# Altium schematic symbol library MH_DA_THU_VIEN_16122016.SchLib: 853 symbols (part 4 of 5)
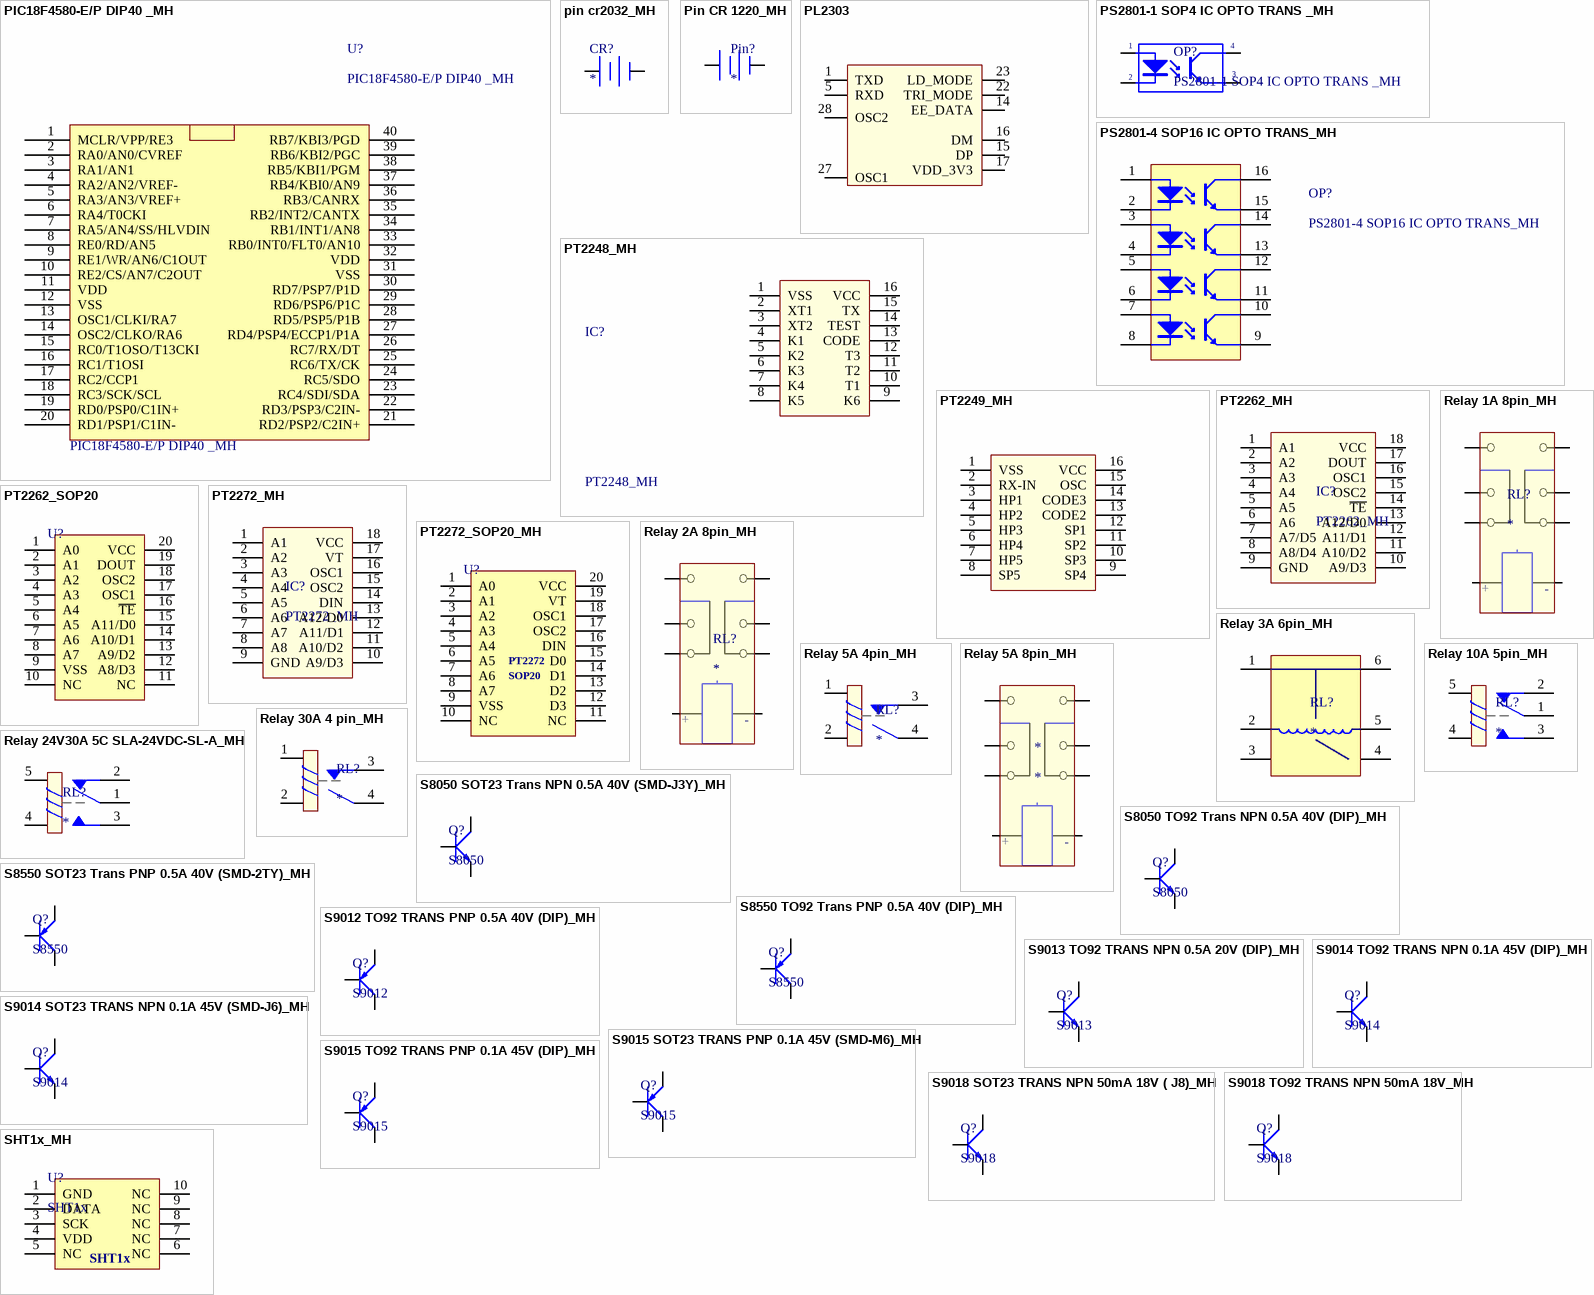
[diagram p43: symbols PIC18F4580-E/P DIP40 _MH to SHT1x_MH]

## S9018 SOT23 TRANS NPN 50mA 18V ( J8)_MH
designator Q?, comment S9018
footprint SOT23 (SOT-23; 3 Leads; Body 3.1 x 2.5 mm, inc. leads (LxW max), Alternate Lead Configuration)
pins: 1 B, 2 E, 3 C

## S9018 TO92 TRANS NPN 50mA 18V_MH
designator Q?, comment S9018
footprint TO92 (TO, Flat Index; 3 In-Line, Axial Leads; Body Dia. 4.8mm)
pins: 1 E, 2 B, 3 C

## SHT1x_MH
designator U?, comment SHT1x
footprint SHT1x (SHT1x PCB)
pins: 1 GND, 2 DATA, 3 SCK, 4 VDD, 5 NC, 6 NC, 7 NC, 8 NC, 9 NC, 10 NC

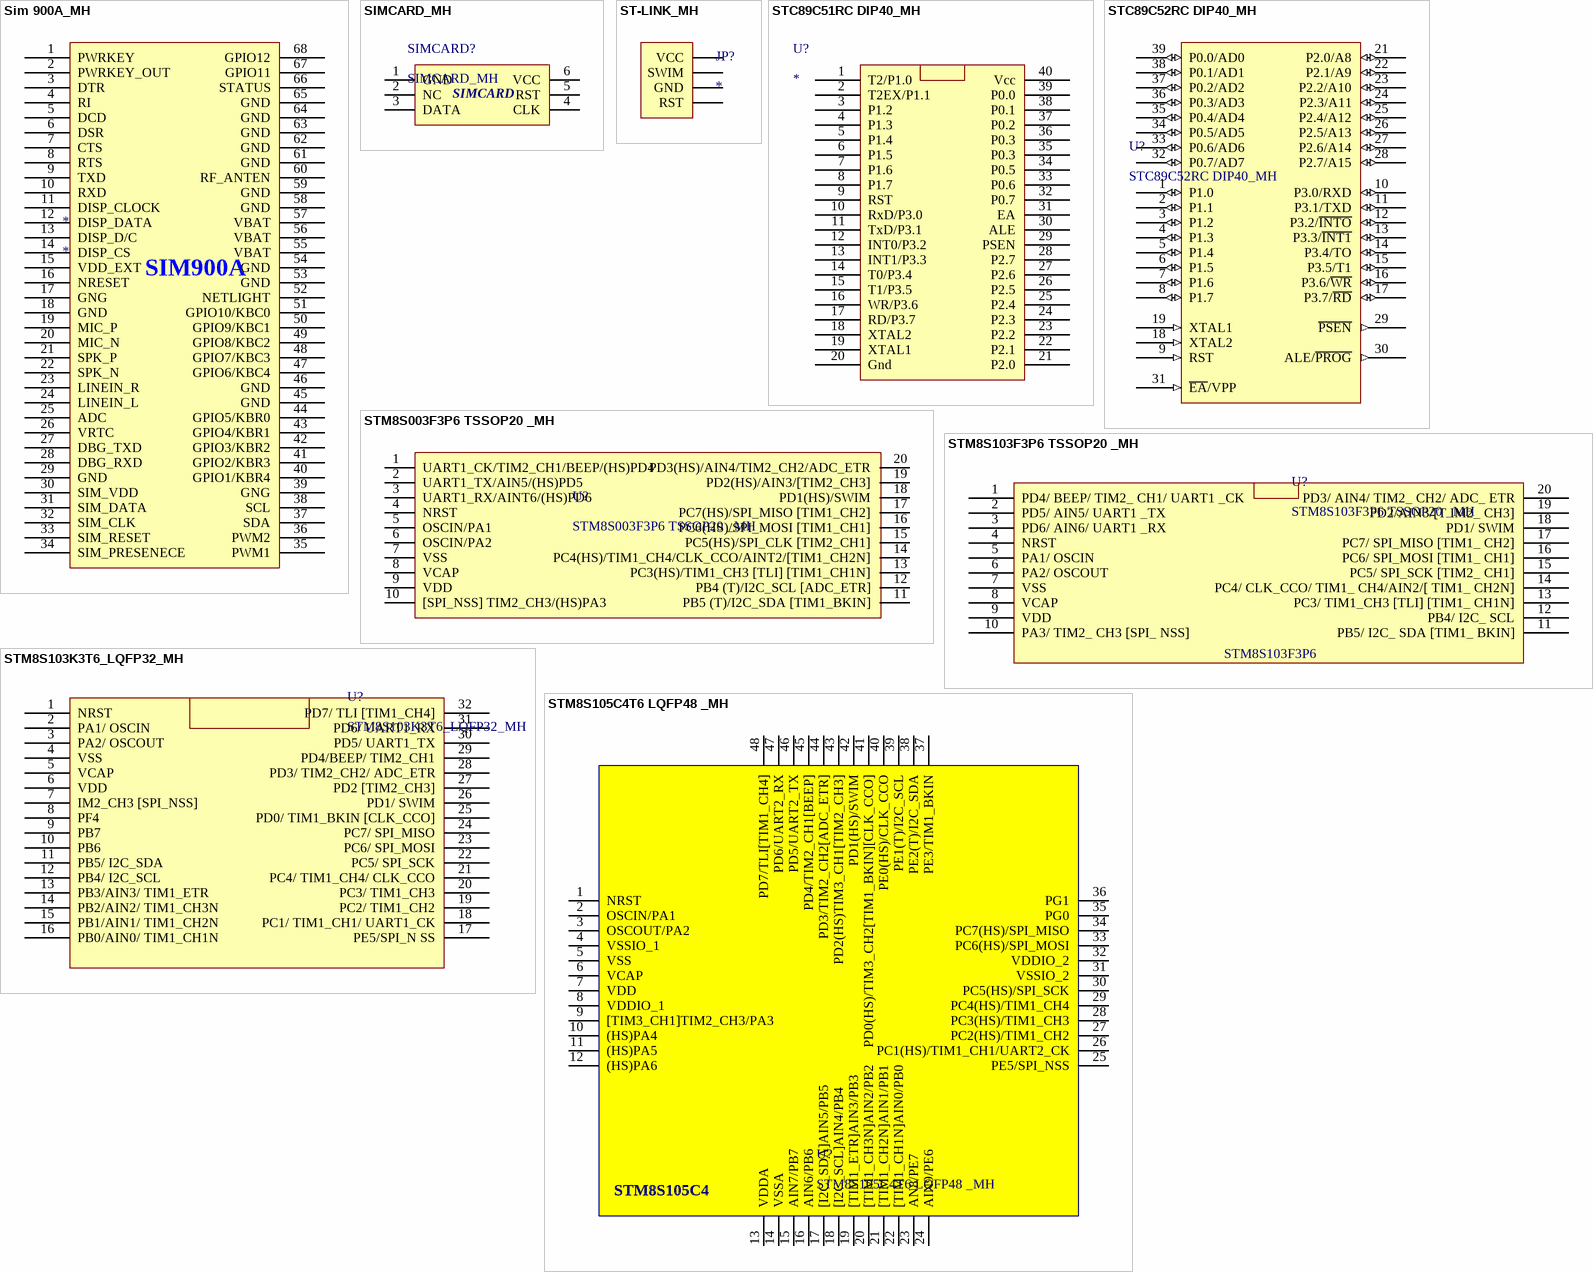
[diagram p25: symbols Sim 900A_MH to STM8S105C4T6 LQFP48 _MH]

## Sim 900A_MH
designator *
footprint SIM900
pins: 1 PWRKEY, 2 PWRKEY_OUT, 3 DTR, 4 RI, 5 DCD, 6 DSR, 7 CTS, 8 RTS, 9 TXD, 10 RXD, 11 DISP_CLOCK, 12 DISP_DATA, 13 DISP_D/C, 14 DISP_CS, 15 VDD_EXT, 16 NRESET, 17 GNG, 18 GND, 19 MIC_P, 20 MIC_N, 21 SPK_P, 22 SPK_N, 23 LINEIN_R, 24 LINEIN_L, 25 ADC, 26 VRTC, 27 DBG_TXD, 28 DBG_RXD, 29 GND, 30 SIM_VDD, 31 SIM_DATA, 32 SIM_CLK, 33 SIM_RESET, 34 SIM_PRESENECE, 35 PWM1, 36 PWM2, 37 SDA, 38 SCL, 39 GNG, 40 GPIO1/KBR4, 41 GPIO2/KBR3, 42 GPIO3/KBR2, 43 GPIO4/KBR1, 44 GPIO5/KBR0, 45 GND, 46 GND, 47 GPIO6/KBC4, 48 GPIO7/KBC3, 49 GPIO8/KBC2, 50 GPIO9/KBC1, 51 GPIO10/KBC0, 52 NETLIGHT, 53 GND, 54 GND, 55 VBAT, 56 VBAT, 57 VBAT, 58 GND, 59 GND, 60 RF_ANTEN, 61 GND, 62 GND, 63 GND, 64 GND, 65 GND, 66 STATUS, 67 GPIO11, 68 GPIO12
text: SIM900A

## SIMCARD_MH
designator SIMCARD?
footprint SIMCARD (SOCKET Khe Cam The Sim)
pins: 1 GND, 2 NC, 3 DATA, 4 CLK, 5 RST, 6 VCC
text: SIMCARD

## ST-LINK_MH
designator JP?
Jump 4P 2.54
footprint Jump 4
pins: 1 VCC, 2 SWIM, 3 GND, 4 RST

## STC89C51RC DIP40_MH
designator U?
STC89C51RC DIP40_MH
footprint DIP 40
pins: 1 T2/P1.0, 2 T2EX/P1.1, 3 P1.2, 4 P1.3, 5 P1.4, 6 P1.5, 7 P1.6, 8 P1.7, 9 RST, 10 RxD/P3.0, 11 TxD/P3.1, 12 INT0/P3.2, 13 INT1/P3.3, 14 T0/P3.4, 15 T1/P3.5, 16 WR/P3.6, 17 RD/P3.7, 18 XTAL2, 19 XTAL1, 20 Gnd, 21 P2.0, 22 P2.1, 23 P2.2, 24 P2.3, 25 P2.4, 26 P2.5, 27 P2.6, 28 P2.7, 29 PSEN, 30 ALE, 31 EA, 32 P0.7, 33 P0.6, 34 P0.5, 35 P0.3, 36 P0.3, 37 P0.2, 38 P0.1, 39 P0.0, 40 Vcc

## STC89C52RC DIP40_MH
designator U?
footprint DIP 40
footprint DIP 40
pins: 1 P1.0 (io), 2 P1.1 (io), 3 P1.2 (io), 4 P1.3 (io), 5 P1.4 (io), 6 P1.5 (io), 7 P1.6 (io), 8 P1.7 (io), 9 RST (in), 10 P3.0/RXD (io), 11 P3.1/TXD (io), 12 P3.2/~{INTO} (io), 13 P3.3/~{INT1} (io), 14 P3.4/TO (io), 15 P3.5/T1 (io), 16 P3.6/~{WR} (io), 17 P3.7/~{RD} (io), 18 XTAL2 (in), 19 XTAL1 (in), 21 P2.0/A8 (io), 22 P2.1/A9 (io), 23 P2.2/A10 (io), 24 P2.3/A11 (io), 25 P2.4/A12 (io), 26 P2.5/A13 (io), 27 P2.6/A14 (io), 28 P2.7/A15 (io), 29 ~{PSEN} (out), 30 ALE/~{PROG} (out), 31 ~{EA}/VPP (in), 32 P0.7/AD7 (io), 33 P0.6/AD6 (io), 34 P0.5/AD5 (io), 35 P0.4/AD4 (io), 36 P0.3/AD3 (io), 37 P0.2/AD2 (io), 38 P0.1/AD1 (io), 39 P0.0/AD0 (io), GND 20 (power) hidden to GND, VCC 40 (power) hidden to VCC

## STM8S003F3P6 TSSOP20 _MH
designator U?
footprint TSSOP20 (Shrink Small Outline; 20 Leads; Body Width 4.4 mm; Pitch 0.65 mm)
pins: 1 UART1_CK/TIM2_CH1/BEEP/(HS)PD4, 2 UART1_TX/AIN5/(HS)PD5, 3 UART1_RX/AINT6/(HS)PD6, 4 NRST, 5 OSCIN/PA1, 6 OSCIN/PA2, 7 VSS, 8 VCAP, 9 VDD, 10 [SPI_NSS] TIM2_CH3/(HS)PA3, 11 PB5 (T)/I2C_SDA [TIM1_BKIN], 12 PB4 (T)/I2C_SCL [ADC_ETR], 13 PC3(HS)/TIM1_CH3 [TLI] [TIM1_CH1N], 14 PC4(HS)/TIM1_CH4/CLK_CCO/AINT2/[TIM1_CH2N], 15 PC5(HS)/SPI_CLK [TIM2_CH1], 16 PC6(HS)/SPI_MOSI [TIM1_CH1], 17 PC7(HS)/SPI_MISO [TIM1_CH2], 18 PD1(HS)/SWIM, 19 PD2(HS)/AIN3/[TIM2_CH3], 20 PD3(HS)/AIN4/TIM2_CH2/ADC_ETR

## STM8S103F3P6 TSSOP20 _MH
designator U?
footprint TSSOP20 (Shrink Small Outline; 20 Leads; Body Width 4.4 mm; Pitch 0.65 mm)
pins: 1 PD4/ BEEP/ TIM2_ CH1/ UART1 _CK, 2 PD5/ AIN5/ UART1 _TX, 3 PD6/ AIN6/ UART1 _RX, 4 NRST, 5 PA1/ OSCIN, 6 PA2/ OSCOUT, 7 VSS, 8 VCAP, 9 VDD, 10 PA3/ TIM2_ CH3 [SPI_ NSS], 11 PB5/ I2C_ SDA [TIM1_ BKIN], 12 PB4/ I2C_ SCL, 13 PC3/ TIM1_CH3 [TLI] [TIM1_ CH1N], 14 PC4/ CLK_CCO/ TIM1_ CH4/AIN2/[ TIM1_ CH2N], 15 PC5/ SPI_SCK [TIM2_ CH1], 16 PC6/ SPI_MOSI [TIM1_ CH1], 17 PC7/ SPI_MISO [TIM1_ CH2], 18 PD1/ SWIM, 19 PD2/AIN3/[T IM2_ CH3], 20 PD3/ AIN4/ TIM2_ CH2/ ADC_ ETR
text: STM8S103F3P6

## STM8S103K3T6_LQFP32_MH
designator U?
STM8S103K3T6 _MH
footprint LQFP 32
pins: 1 NRST, 2 PA1/ OSCIN, 3 PA2/ OSCOUT, 4 VSS, 5 VCAP, 6 VDD, 7 IM2_CH3 [SPI_NSS], 8 PF4, 9 PB7, 10 PB6, 11 PB5/ I2C_SDA, 12 PB4/ I2C_SCL, 13 PB3/AIN3/ TIM1_ETR, 14 PB2/AIN2/ TIM1_CH3N, 15 PB1/AIN1/ TIM1_CH2N, 16 PB0/AIN0/ TIM1_CH1N, 17 PE5/SPI_N SS, 18 PC1/ TIM1_CH1/ UART1_CK, 19 PC2/ TIM1_CH2, 20 PC3/ TIM1_CH3, 21 PC4/ TIM1_CH4/ CLK_CCO, 22 PC5/ SPI_SCK, 23 PC6/ SPI_MOSI, 24 PC7/ SPI_MISO, 25 PD0/ TIM1_BKIN [CLK_CCO], 26 PD1/ SWIM, 27 PD2 [TIM2_CH3], 28 PD3/ TIM2_CH2/ ADC_ETR, 29 PD4/BEEP/ TIM2_CH1, 30 PD5/ UART1_TX, 31 PD6/ UART1_RX, 32 PD7/ TLI [TIM1_CH4]

## STM8S105C4T6 LQFP48 _MH
designator U?
footprint LQFP48
pins: 1 NRST, 2 OSCIN/PA1, 3 OSCOUT/PA2, 4 VSSIO_1, 5 VSS, 6 VCAP, 7 VDD, 8 VDDIO_1, 9 [TIM3_CH1]TIM2_CH3/PA3, 10 (HS)PA4, 11 (HS)PA5, 12 (HS)PA6, 13 VDDA, 14 VSSA, 15 AIN7/PB7, 16 AIN6/PB6, 17 [I2C_SDA]AIN5/PB5, 18 [I2C_SCL]AIN4/PB4, 19 [TIM1_ETR]AIN3/PB3, 20 [TIM1_CH3N]AIN2/PB2, 21 [TIM1_CH2N]AIN1/PB1, 22 [TIM1_CH1N]AIN0/PB0, 23 AN8/PE7, 24 AIN9/PE6, 25 PE5/SPI_NSS, 26 PC1(HS)/TIM1_CH1/UART2_CK, 27 PC2(HS)/TIM1_CH2, 28 PC3(HS)/TIM1_CH3, 29 PC4(HS)/TIM1_CH4, 30 PC5(HS)/SPI_SCK, 31 VSSIO_2, 32 VDDIO_2, 33 PC6(HS)/SPI_MOSI, 34 PC7(HS)/SPI_MISO, 35 PG0, 36 PG1, 37 PE3/TIM1_BKIN, 38 PE2(T)/I2C_SDA, 39 PE1(T)/I2C_SCL, 40 PE0(HS)/CLK_CCO, 41 PD0(HS)/TIM3_CH2[TIM1_BKIN][CLK_CCO], 42 PD1(HS)/SWIM, 43 PD2(HS)TIM3_CH1[TIM2_CH3], 44 PD3/TIM2_CH2[ADC_ETR], 45 PD4/TIM2_CH1[BEEP], 46 PD5/UART2_TX, 47 PD6/UART2_RX, 48 PD7/TLI[TIM1_CH4]
text: STM8S105C4

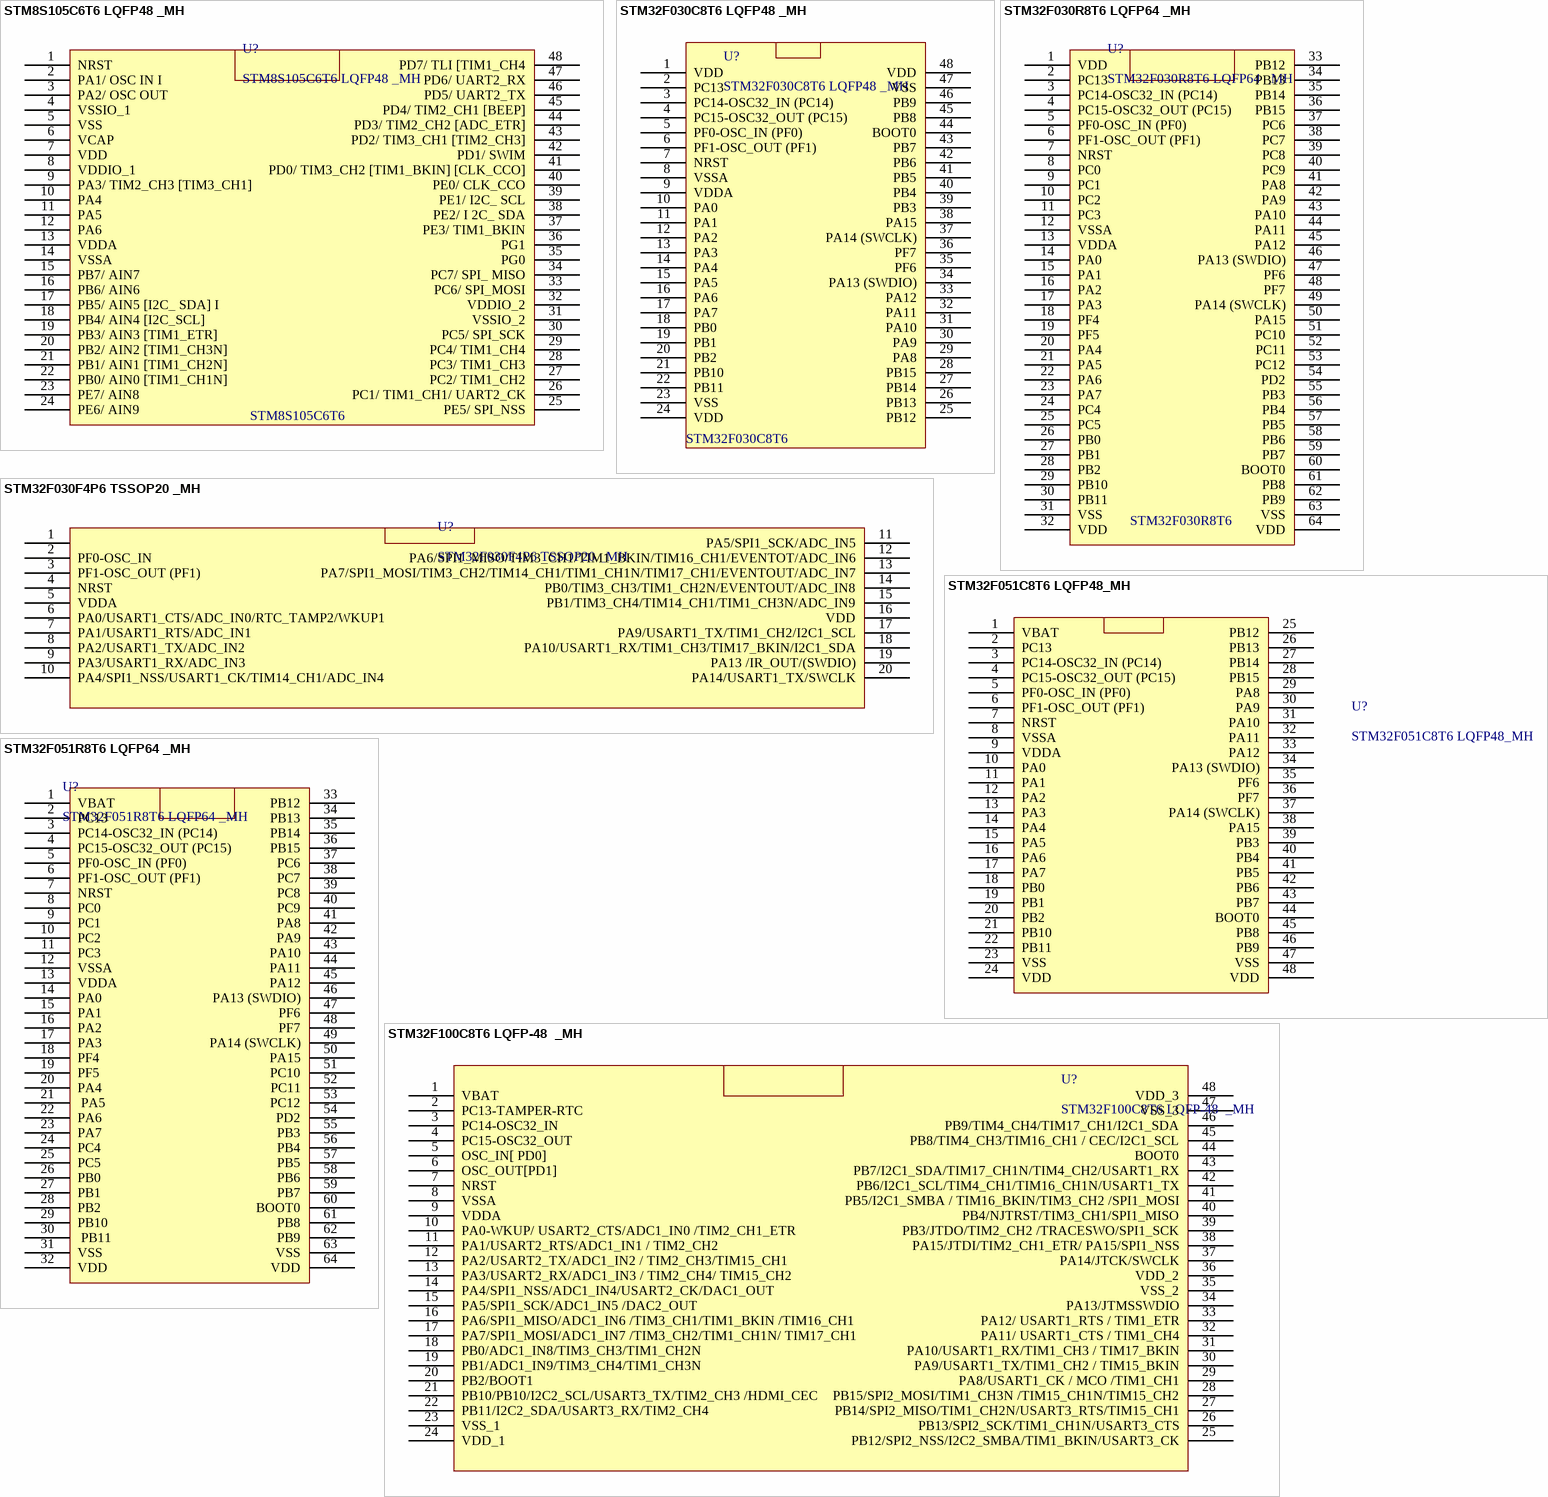
[diagram p26: symbols STM8S105C6T6 LQFP48 _MH to STM32F100C8T6 LQFP-48  _MH]

## STM8S105C6T6 LQFP48 _MH
designator U?
STM8S105C6T6 QFP48 _MH
footprint LQFP48
pins: 1 NRST, 2 PA1/ OSC IN I, 3 PA2/ OSC OUT, 4 VSSIO_1, 5 VSS , 6 VCAP, 7 VDD, 8 VDDIO_1, 9 PA3/ TIM2_CH3 [TIM3_CH1], 10 PA4, 11 PA5, 12 PA6, 13 VDDA, 14 VSSA, 15 PB7/ AIN7, 16 PB6/ AIN6, 17 PB5/ AIN5 [I2C_ SDA] I, 18 PB4/ AIN4 [I2C_SCL], 19 PB3/ AIN3 [TIM1_ETR], 20 PB2/ AIN2 [TIM1_CH3N], 21 PB1/ AIN1 [TIM1_CH2N], 22 PB0/ AIN0 [TIM1_CH1N], 23 PE7/ AIN8, 24 PE6/ AIN9, 25 PE5/ SPI_NSS, 26 PC1/ TIM1_CH1/ UART2_CK, 27 PC2/ TIM1_CH2, 28 PC3/ TIM1_CH3, 29 PC4/ TIM1_CH4, 30 PC5/ SPI_SCK, 31 VSSIO_2, 32 VDDIO_2, 33 PC6/ SPI_MOSI, 34 PC7/ SPI_ MISO, 35 PG0, 36 PG1, 37 PE3/ TIM1_BKIN, 38 PE2/ I 2C_ SDA, 39 PE1/ I2C_ SCL, 40 PE0/ CLK_CCO, 41 PD0/ TIM3_CH2 [TIM1_BKIN] [CLK_CCO], 42 PD1/ SWIM, 43 PD2/ TIM3_CH1 [TIM2_CH3], 44 PD3/ TIM2_CH2 [ADC_ETR], 45 PD4/ TIM2_CH1 [BEEP], 46 PD5/ UART2_TX, 47 PD6/ UART2_RX, 48 PD7/ TLI [TIM1_CH4
text: STM8S105C6T6

## STM32F030C8T6 LQFP48 _MH
designator U?
footprint LQFP48
pins: 1 VDD, 2 PC13, 3 PC14-OSC32_IN (PC14), 4 PC15-OSC32_OUT (PC15), 5 PF0-OSC_IN (PF0), 6 PF1-OSC_OUT (PF1), 7 NRST, 8 VSSA, 9 VDDA, 10 PA0, 11 PA1, 12 PA2, 13 PA3, 14 PA4, 15 PA5, 16 PA6, 17 PA7, 18 PB0, 19 PB1, 20 PB2, 21 PB10, 22 PB11, 23 VSS, 24 VDD, 25 PB12, 26 PB13, 27 PB14, 28 PB15, 29 PA8, 30 PA9, 31 PA10, 32 PA11, 33 PA12, 34 PA13 (SWDIO), 35 PF6, 36 PF7, 37 PA14 (SWCLK), 38 PA15, 39 PB3, 40 PB4, 41 PB5, 42 PB6, 43 PB7, 44 BOOT0, 45 PB8, 46 PB9, 47 VSS, 48 VDD
text: STM32F030C8T6

## STM32F030F4P6 TSSOP20 _MH
designator U?
footprint TSSOP20 (Shrink Small Outline; 20 Leads; Body Width 4.4 mm; Pitch 0.65 mm)
pins: 1, 2 PF0-OSC_IN, 3 PF1-OSC_OUT (PF1), 4 NRST, 5 VDDA, 6 PA0/USART1_CTS/ADC_IN0/RTC_TAMP2/WKUP1, 7 PA1/USART1_RTS/ADC_IN1, 8 PA2/USART1_TX/ADC_IN2, 9 PA3/USART1_RX/ADC_IN3, 10 PA4/SPI1_NSS/USART1_CK/TIM14_CH1/ADC_IN4, 11 PA5/SPI1_SCK/ADC_IN5, 12 PA6/SPI1_MISO/TIM3_CH1/TIM1_BKIN/TIM16_CH1/EVENTOT/ADC_IN6, 13 PA7/SPI1_MOSI/TIM3_CH2/TIM14_CH1/TIM1_CH1N/TIM17_CH1/EVENTOUT/ADC_IN7, 14 PB0/TIM3_CH3/TIM1_CH2N/EVENTOUT/ADC_IN8, 15 PB1/TIM3_CH4/TIM14_CH1/TIM1_CH3N/ADC_IN9, 16 VDD, 17 PA9/USART1_TX/TIM1_CH2/I2C1_SCL, 18 PA10/USART1_RX/TIM1_CH3/TIM17_BKIN/I2C1_SDA, 19 PA13 /IR_OUT/(SWDIO), 20 PA14/USART1_TX/SWCLK

## STM32F030R8T6 LQFP64 _MH
designator U?
footprint LQFP64
pins: 1 VDD, 2 PC13, 3 PC14-OSC32_IN (PC14), 4 PC15-OSC32_OUT (PC15), 5 PF0-OSC_IN (PF0), 6 PF1-OSC_OUT (PF1), 7 NRST, 8 PC0, 9 PC1, 10 PC2, 11 PC3, 12 VSSA, 13 VDDA, 14 PA0, 15 PA1, 16 PA2, 17 PA3, 18 PF4, 19 PF5, 20 PA4, 21 PA5, 22 PA6, 23 PA7, 24 PC4, 25 PC5, 26 PB0, 27 PB1, 28 PB2, 29 PB10, 30 PB11, 31 VSS, 32 VDD, 33 PB12, 34 PB13, 35 PB14, 36 PB15, 37  PC6, 38  PC7, 39  PC8, 40  PC9, 41 PA8, 42 PA9, 43 PA10, 44 PA11, 45 PA12, 46 PA13 (SWDIO), 47 PF6, 48 PF7, 49 PA14 (SWCLK), 50 PA15, 51 PC10, 52 PC11, 53 PC12, 54 PD2, 55 PB3, 56 PB4, 57 PB5, 58 PB6, 59 PB7, 60 BOOT0, 61 PB8, 62 PB9, 63 VSS, 64 VDD
text: STM32F030R8T6

## STM32F051C8T6 LQFP48_MH
designator U?
footprint LQFP48
pins: 1 VBAT, 2 PC13, 3 PC14-OSC32_IN (PC14), 4 PC15-OSC32_OUT (PC15), 5 PF0-OSC_IN (PF0), 6 PF1-OSC_OUT (PF1), 7 NRST, 8 VSSA, 9 VDDA, 10 PA0, 11 PA1, 12 PA2, 13 PA3, 14 PA4, 15 PA5, 16 PA6, 17 PA7, 18 PB0, 19 PB1, 20 PB2, 21 PB10, 22 PB11, 23 VSS, 24 VDD, 25 PB12, 26 PB13, 27 PB14, 28 PB15, 29 PA8, 30 PA9, 31 PA10, 32 PA11, 33 PA12, 34 PA13 (SWDIO), 35 PF6, 36 PF7, 37 PA14 (SWCLK), 38 PA15, 39 PB3, 40 PB4, 41 PB5, 42 PB6, 43 PB7, 44 BOOT0, 45 PB8, 46 PB9, 47 VSS, 48 VDD

## STM32F051R8T6 LQFP64 _MH
designator U?
footprint LQFP64
pins: 1 VBAT, 2 PC13, 3 PC14-OSC32_IN (PC14), 4 PC15-OSC32_OUT (PC15), 5 PF0-OSC_IN (PF0), 6 PF1-OSC_OUT (PF1), 7 NRST, 8 PC0, 9 PC1, 10 PC2, 11 PC3, 12 VSSA, 13 VDDA, 14 PA0, 15 PA1, 16 PA2, 17 PA3, 18 PF4, 19 PF5, 20 PA4, 21  PA5, 22 PA6, 23 PA7, 24 PC4, 25 PC5, 26 PB0, 27 PB1, 28 PB2, 29 PB10, 30  PB11, 31 VSS, 32 VDD, 33 PB12, 34 PB13, 35 PB14, 36 PB15, 37  PC6, 38 PC7, 39  PC8, 40  PC9, 41 PA8, 42 PA9, 43 PA10, 44 PA11, 45 PA12, 46 PA13 (SWDIO), 47 PF6, 48 PF7, 49 PA14 (SWCLK), 50 PA15, 51 PC10, 52 PC11, 53 PC12, 54 PD2, 55 PB3, 56 PB4, 57 PB5, 58 PB6, 59 PB7, 60 BOOT0, 61  PB8, 62  PB9, 63 VSS, 64 VDD

## STM32F100C8T6 LQFP-48  _MH
designator U?
footprint LQFP48
pins: 1 VBAT, 2 PC13-TAMPER-RTC, 3 PC14-OSC32_IN, 4 PC15-OSC32_OUT, 5 OSC_IN[ PD0], 6 OSC_OUT[PD1], 7 NRST, 8 VSSA, 9 VDDA, 10 PA0-WKUP/ USART2_CTS/ADC1_IN0 /TIM2_CH1_ETR, 11 PA1/USART2_RTS/ADC1_IN1 / TIM2_CH2, 12 PA2/USART2_TX/ADC1_IN2 / TIM2_CH3/TIM15_CH1, 13 PA3/USART2_RX/ADC1_IN3 / TIM2_CH4/ TIM15_CH2, 14 PA4/SPI1_NSS/ADC1_IN4/USART2_CK/DAC1_OUT, 15 PA5/SPI1_SCK/ADC1_IN5 /DAC2_OUT, 16 PA6/SPI1_MISO/ADC1_IN6 /TIM3_CH1/TIM1_BKIN /TIM16_CH1, 17 PA7/SPI1_MOSI/ADC1_IN7 /TIM3_CH2/TIM1_CH1N/ TIM17_CH1, 18 PB0/ADC1_IN8/TIM3_CH3/TIM1_CH2N, 19 PB1/ADC1_IN9/TIM3_CH4/TIM1_CH3N, 20 PB2/BOOT1, 21 PB10/PB10/I2C2_SCL/USART3_TX/TIM2_CH3 /HDMI_CEC, 22 PB11/I2C2_SDA/USART3_RX/TIM2_CH4, 23 VSS_1, 24 VDD_1, 25 PB12/SPI2_NSS/I2C2_SMBA/TIM1_BKIN/USART3_CK, 26 PB13/SPI2_SCK/TIM1_CH1N/USART3_CTS, 27 PB14/SPI2_MISO/TIM1_CH2N/USART3_RTS/TIM15_CH1, 28 PB15/SPI2_MOSI/TIM1_CH3N /TIM15_CH1N/TIM15_CH2, 29 PA8/USART1_CK / MCO /TIM1_CH1, 30 PA9/USART1_TX/TIM1_CH2 / TIM15_BKIN, 31 PA10/USART1_RX/TIM1_CH3 / TIM17_BKIN, 32 PA11/ USART1_CTS / TIM1_CH4, 33 PA12/ USART1_RTS / TIM1_ETR, 34 PA13/JTMSSWDIO, 35 VSS_2, 36 VDD_2, 37 PA14/JTCK/SWCLK, 38 PA15/JTDI/TIM2_CH1_ETR/ PA15/SPI1_NSS, 39 PB3/JTDO/TIM2_CH2 /TRACESWO/SPI1_SCK, 40 PB4/NJTRST/TIM3_CH1/SPI1_MISO, 41 PB5/I2C1_SMBA / TIM16_BKIN/TIM3_CH2 /SPI1_MOSI, 42 PB6/I2C1_SCL/TIM4_CH1/TIM16_CH1N/USART1_TX, 43 PB7/I2C1_SDA/TIM17_CH1N/TIM4_CH2/USART1_RX, 44 BOOT0, 45 PB8/TIM4_CH3/TIM16_CH1 / CEC/I2C1_SCL, 46 PB9/TIM4_CH4/TIM17_CH1/I2C1_SDA, 47 VSS_3, 48 VDD_3

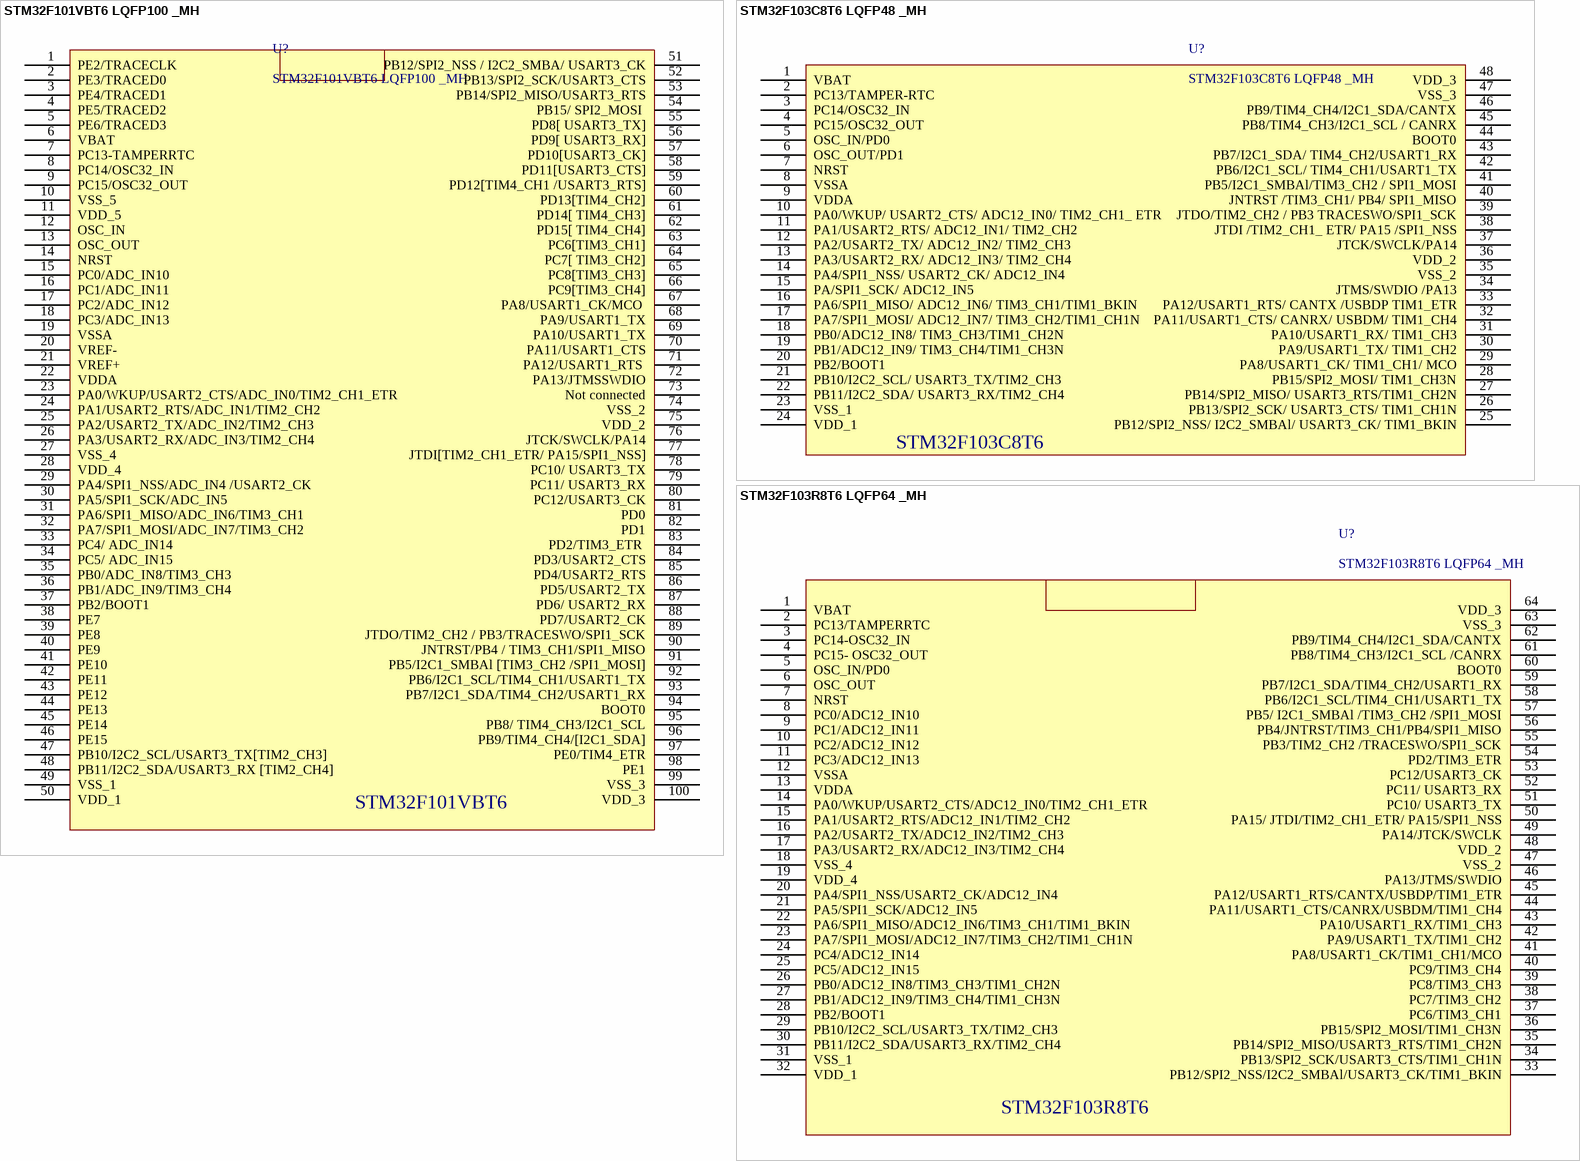
[diagram p27: symbols STM32F101VBT6 LQFP100 _MH to STM32F103R8T6 LQFP64 _MH]

## STM32F101VBT6 LQFP100 _MH
designator U?
footprint LQFP 100
pins: 1 PE2/TRACECLK, 2 PE3/TRACED0, 3 PE4/TRACED1, 4 PE5/TRACED2, 5 PE6/TRACED3, 6 VBAT, 7 PC13-TAMPERRTC, 8 PC14/OSC32_IN, 9 PC15/OSC32_OUT, 10 VSS_5, 11 VDD_5, 12 OSC_IN, 13 OSC_OUT, 14 NRST, 15 PC0/ADC_IN10 , 16 PC1/ADC_IN11, 17 PC2/ADC_IN12, 18 PC3/ADC_IN13, 19 VSSA, 20 VREF-, 21 VREF+, 22 VDDA, 23 PA0/WKUP/USART2_CTS/ADC_IN0/TIM2_CH1_ETR, 24 PA1/USART2_RTS/ADC_IN1/TIM2_CH2, 25 PA2/USART2_TX/ADC_IN2/TIM2_CH3, 26 PA3/USART2_RX/ADC_IN3/TIM2_CH4, 27 VSS_4, 28 VDD_4, 29 PA4/SPI1_NSS/ADC_IN4 /USART2_CK, 30 PA5/SPI1_SCK/ADC_IN5, 31 PA6/SPI1_MISO/ADC_IN6/TIM3_CH1, 32 PA7/SPI1_MOSI/ADC_IN7/TIM3_CH2, 33 PC4/ ADC_IN14 , 34 PC5/ ADC_IN15 , 35 PB0/ADC_IN8/TIM3_CH3, 36 PB1/ADC_IN9/TIM3_CH4, 37 PB2/BOOT1, 38 PE7, 39 PE8, 40 PE9, 41 PE10, 42 PE11, 43 PE12, 44 PE13, 45 PE14, 46 PE15, 47 PB10/I2C2_SCL/USART3_TX[TIM2_CH3], 48 PB11/I2C2_SDA/USART3_RX [TIM2_CH4], 49 VSS_1, 50 VDD_1, 51 PB12/SPI2_NSS / I2C2_SMBA/ USART3_CK, 52 PB13/SPI2_SCK/USART3_CTS, 53 PB14/SPI2_MISO/USART3_RTS, 54 PB15/ SPI2_MOSI , 55 PD8[ USART3_TX], 56 PD9[ USART3_RX], 57 PD10[USART3_CK], 58 PD11[USART3_CTS], 59 PD12[TIM4_CH1 /USART3_RTS], 60 PD13[TIM4_CH2], 61 PD14[ TIM4_CH3], 62 PD15[ TIM4_CH4], 63 PC6[TIM3_CH1], 64 PC7[ TIM3_CH2], 65 PC8[TIM3_CH3], 66 PC9[TIM3_CH4], 67 PA8/USART1_CK/MCO , 68 PA9/USART1_TX, 69 PA10/USART1_TX, 70 PA11/USART1_CTS, 71 PA12/USART1_RTS , 72 PA13/JTMSSWDIO, 73 Not connected, 74 VSS_2, 75 VDD_2, 76 JTCK/SWCLK/PA14, 77 JTDI[TIM2_CH1_ETR/ PA15/SPI1_NSS], 78 PC10/ USART3_TX, 79 PC11/ USART3_RX, 80 PC12/USART3_CK, 81 PD0, 82 PD1, 83 PD2/TIM3_ETR , 84 PD3/USART2_CTS, 85 PD4/USART2_RTS, 86 PD5/USART2_TX, 87 PD6/ USART2_RX, 88 PD7/USART2_CK, 89 JTDO/TIM2_CH2 / PB3/TRACESWO/SPI1_SCK, 90 JNTRST/PB4 / TIM3_CH1/SPI1_MISO, 91 PB5/I2C1_SMBAl [TIM3_CH2 /SPI1_MOSI], 92 PB6/I2C1_SCL/TIM4_CH1/USART1_TX, 93 PB7/I2C1_SDA/TIM4_CH2/USART1_RX, 94 BOOT0, 95 PB8/ TIM4_CH3/I2C1_SCL, 96 PB9/TIM4_CH4/[I2C1_SDA], 97 PE0/TIM4_ETR, 98 PE1, 99 VSS_3, 100 VDD_3
text: STM32F101VBT6

## STM32F103C8T6 LQFP48 _MH
designator U?
footprint LQFP48
pins: 1 VBAT, 2 PC13/TAMPER-RTC, 3 PC14/OSC32_IN, 4 PC15/OSC32_OUT, 5 OSC_IN/PD0, 6 OSC_OUT/PD1, 7 NRST, 8 VSSA, 9 VDDA, 10 PA0/WKUP/ USART2_CTS/ ADC12_IN0/ TIM2_CH1_ ETR, 11 PA1/USART2_RTS/ ADC12_IN1/ TIM2_CH2, 12 PA2/USART2_TX/ ADC12_IN2/ TIM2_CH3, 13 PA3/USART2_RX/ ADC12_IN3/ TIM2_CH4, 14 PA4/SPI1_NSS/ USART2_CK/ ADC12_IN4, 15 PA/SPI1_SCK/ ADC12_IN5, 16 PA6/SPI1_MISO/ ADC12_IN6/ TIM3_CH1/TIM1_BKIN, 17 PA7/SPI1_MOSI/ ADC12_IN7/ TIM3_CH2/TIM1_CH1N, 18 PB0/ADC12_IN8/ TIM3_CH3/TIM1_CH2N, 19 PB1/ADC12_IN9/ TIM3_CH4/TIM1_CH3N, 20 PB2/BOOT1, 21 PB10/I2C2_SCL/ USART3_TX/TIM2_CH3, 22 PB11/I2C2_SDA/ USART3_RX/TIM2_CH4, 23 VSS_1, 24 VDD_1, 25 PB12/SPI2_NSS/ I2C2_SMBAl/ USART3_CK/ TIM1_BKIN, 26 PB13/SPI2_SCK/ USART3_CTS/ TIM1_CH1N, 27 PB14/SPI2_MISO/ USART3_RTS/TIM1_CH2N, 28 PB15/SPI2_MOSI/ TIM1_CH3N, 29 PA8/USART1_CK/ TIM1_CH1/ MCO, 30 PA9/USART1_TX/ TIM1_CH2, 31 PA10/USART1_RX/ TIM1_CH3, 32 PA11/USART1_CTS/ CANRX/ USBDM/ TIM1_CH4, 33 PA12/USART1_RTS/ CANTX /USBDP TIM1_ETR, 34 JTMS/SWDIO /PA13, 35 VSS_2, 36 VDD_2, 37 JTCK/SWCLK/PA14, 38 JTDI /TIM2_CH1_ ETR/ PA15 /SPI1_NSS, 39 JTDO/TIM2_CH2 / PB3 TRACESWO/SPI1_SCK, 40 JNTRST /TIM3_CH1/ PB4/ SPI1_MISO, 41 PB5/I2C1_SMBAl/TIM3_CH2 / SPI1_MOSI, 42 PB6/I2C1_SCL/ TIM4_CH1/USART1_TX, 43 PB7/I2C1_SDA/ TIM4_CH2/USART1_RX, 44 BOOT0, 45 PB8/TIM4_CH3/I2C1_SCL / CANRX, 46  PB9/TIM4_CH4/I2C1_SDA/CANTX, 47 VSS_3, 48 VDD_3
text: STM32F103C8T6

## STM32F103R8T6 LQFP64 _MH
designator U?
footprint LQFP64
pins: 1 VBAT, 2 PC13/TAMPERRTC, 3 PC14-OSC32_IN, 4 PC15- OSC32_OUT, 5 OSC_IN/PD0, 6 OSC_OUT, 7 NRST, 8 PC0/ADC12_IN10 , 9 PC1/ADC12_IN11, 10 PC2/ADC12_IN12, 11 PC3/ADC12_IN13, 12 VSSA, 13 VDDA, 14 PA0/WKUP/USART2_CTS/ADC12_IN0/TIM2_CH1_ETR, 15 PA1/USART2_RTS/ADC12_IN1/TIM2_CH2, 16 PA2/USART2_TX/ADC12_IN2/TIM2_CH3, 17 PA3/USART2_RX/ADC12_IN3/TIM2_CH4, 18 VSS_4, 19 VDD_4, 20 PA4/SPI1_NSS/USART2_CK/ADC12_IN4, 21 PA5/SPI1_SCK/ADC12_IN5 , 22 PA6/SPI1_MISO/ADC12_IN6/TIM3_CH1/TIM1_BKIN, 23 PA7/SPI1_MOSI/ADC12_IN7/TIM3_CH2/TIM1_CH1N, 24 PC4/ADC12_IN14 , 25 PC5/ADC12_IN15 , 26 PB0/ADC12_IN8/TIM3_CH3/TIM1_CH2N, 27 PB1/ADC12_IN9/TIM3_CH4/TIM1_CH3N, 28 PB2/BOOT1, 29 PB10/I2C2_SCL/USART3_TX/TIM2_CH3, 30 PB11/I2C2_SDA/USART3_RX/TIM2_CH4, 31 VSS_1, 32 VDD_1, 33 PB12/SPI2_NSS/I2C2_SMBAl/USART3_CK/TIM1_BKIN, 34 PB13/SPI2_SCK/USART3_CTS/TIM1_CH1N, 35 PB14/SPI2_MISO/USART3_RTS/TIM1_CH2N, 36 PB15/SPI2_MOSI/TIM1_CH3N, 37 PC6/TIM3_CH1, 38 PC7/TIM3_CH2, 39 PC8/TIM3_CH3, 40 PC9/TIM3_CH4, 41 PA8/USART1_CK/TIM1_CH1/MCO, 42 PA9/USART1_TX/TIM1_CH2, 43 PA10/USART1_RX/TIM1_CH3, 44 PA11/USART1_CTS/CANRX/USBDM/TIM1_CH4, 45 PA12/USART1_RTS/CANTX/USBDP/TIM1_ETR, 46 PA13/JTMS/SWDIO, 47 VSS_2, 48 VDD_2, 49 PA14/JTCK/SWCLK, 50 PA15/ JTDI/TIM2_CH1_ETR/ PA15/SPI1_NSS, 51 PC10/ USART3_TX, 52 PC11/ USART3_RX, 53 PC12/USART3_CK, 54 PD2/TIM3_ETR, 55 PB3/TIM2_CH2 /TRACESWO/SPI1_SCK, 56 PB4/JNTRST/TIM3_CH1/PB4/SPI1_MISO, 57 PB5/ I2C1_SMBAl /TIM3_CH2 /SPI1_MOSI, 58 PB6/I2C1_SCL/TIM4_CH1/USART1_TX, 59 PB7/I2C1_SDA/TIM4_CH2/USART1_RX, 60 BOOT0, 61 PB8/TIM4_CH3/I2C1_SCL /CANRX, 62 PB9/TIM4_CH4/I2C1_SDA/CANTX, 63 VSS_3, 64 VDD_3
text: STM32F103R8T6

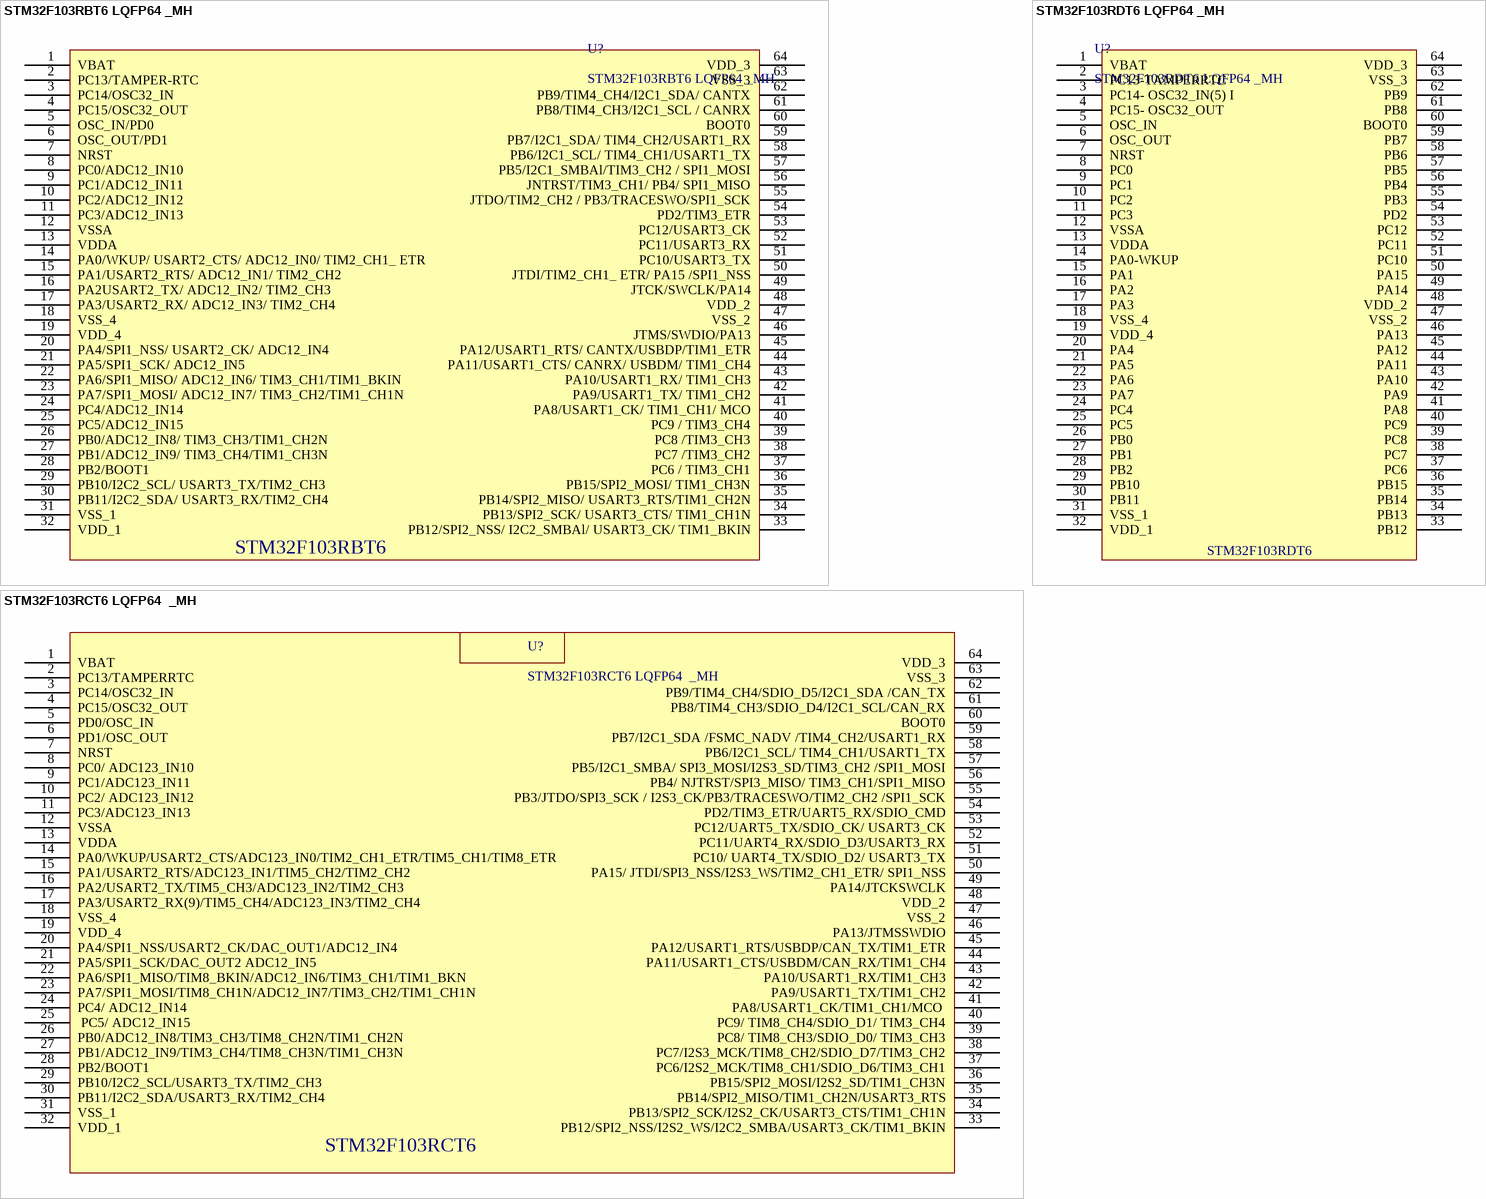
[diagram p28: symbols STM32F103RBT6 LQFP64 _MH to STM32F103RDT6 LQFP64 _MH]

## STM32F103RBT6 LQFP64 _MH
designator U?
footprint LQFP64
pins: 1 VBAT, 2 PC13/TAMPER-RTC, 3 PC14/OSC32_IN, 4 PC15/OSC32_OUT, 5 OSC_IN/PD0, 6 OSC_OUT/PD1, 7 NRST, 8 PC0/ADC12_IN10, 9 PC1/ADC12_IN11, 10 PC2/ADC12_IN12, 11 PC3/ADC12_IN13, 12 VSSA, 13 VDDA, 14 PA0/WKUP/ USART2_CTS/ ADC12_IN0/ TIM2_CH1_ ETR, 15 PA1/USART2_RTS/ ADC12_IN1/ TIM2_CH2, 16 PA2USART2_TX/ ADC12_IN2/ TIM2_CH3, 17 PA3/USART2_RX/ ADC12_IN3/ TIM2_CH4, 18 VSS_4, 19 VDD_4, 20 PA4/SPI1_NSS/ USART2_CK/ ADC12_IN4, 21 PA5/SPI1_SCK/ ADC12_IN5, 22 PA6/SPI1_MISO/ ADC12_IN6/ TIM3_CH1/TIM1_BKIN, 23 PA7/SPI1_MOSI/ ADC12_IN7/ TIM3_CH2/TIM1_CH1N, 24 PC4/ADC12_IN14, 25 PC5/ADC12_IN15, 26 PB0/ADC12_IN8/ TIM3_CH3/TIM1_CH2N, 27 PB1/ADC12_IN9/ TIM3_CH4/TIM1_CH3N, 28 PB2/BOOT1, 29 PB10/I2C2_SCL/ USART3_TX/TIM2_CH3, 30 PB11/I2C2_SDA/ USART3_RX/TIM2_CH4, 31 VSS_1, 32 VDD_1, 33 PB12/SPI2_NSS/ I2C2_SMBAl/ USART3_CK/ TIM1_BKIN, 34 PB13/SPI2_SCK/ USART3_CTS/ TIM1_CH1N, 35 PB14/SPI2_MISO/ USART3_RTS/TIM1_CH2N, 36 PB15/SPI2_MOSI/ TIM1_CH3N, 37 PC6 / TIM3_CH1, 38 PC7 /TIM3_CH2, 39 PC8 /TIM3_CH3, 40 PC9 / TIM3_CH4, 41 PA8/USART1_CK/ TIM1_CH1/ MCO, 42 PA9/USART1_TX/ TIM1_CH2, 43 PA10/USART1_RX/ TIM1_CH3, 44 PA11/USART1_CTS/ CANRX/ USBDM/ TIM1_CH4, 45 PA12/USART1_RTS/ CANTX/USBDP/TIM1_ETR, 46 JTMS/SWDIO/PA13, 47 VSS_2, 48 VDD_2, 49 JTCK/SWCLK/PA14, 50 JTDI/TIM2_CH1_ ETR/ PA15 /SPI1_NSS, 51 PC10/USART3_TX, 52 PC11/USART3_RX, 53 PC12/USART3_CK, 54 PD2/TIM3_ETR, 55 JTDO/TIM2_CH2 / PB3/TRACESWO/SPI1_SCK, 56 JNTRST/TIM3_CH1/ PB4/ SPI1_MISO, 57 PB5/I2C1_SMBAl/TIM3_CH2 / SPI1_MOSI, 58 PB6/I2C1_SCL/ TIM4_CH1/USART1_TX, 59 PB7/I2C1_SDA/ TIM4_CH2/USART1_RX, 60 BOOT0, 61 PB8/TIM4_CH3/I2C1_SCL / CANRX, 62 PB9/TIM4_CH4/I2C1_SDA/ CANTX, 63 VSS_3, 64 VDD_3
text: STM32F103RBT6

## STM32F103RCT6 LQFP64  _MH
designator U?
footprint LQFP64
pins: 1 VBAT, 2 PC13/TAMPERRTC, 3 PC14/OSC32_IN, 4 PC15/OSC32_OUT, 5 PD0/OSC_IN, 6 PD1/OSC_OUT, 7 NRST, 8 PC0/ ADC123_IN10, 9 PC1/ADC123_IN11, 10 PC2/ ADC123_IN12, 11 PC3/ADC123_IN13, 12 VSSA, 13 VDDA, 14 PA0/WKUP/USART2_CTS/ADC123_IN0/TIM2_CH1_ETR/TIM5_CH1/TIM8_ETR, 15 PA1/USART2_RTS/ADC123_IN1/TIM5_CH2/TIM2_CH2, 16 PA2/USART2_TX/TIM5_CH3/ADC123_IN2/TIM2_CH3 , 17 PA3/USART2_RX(9)/TIM5_CH4/ADC123_IN3/TIM2_CH4, 18 VSS_4, 19 VDD_4, 20 PA4/SPI1_NSS/USART2_CK/DAC_OUT1/ADC12_IN4, 21 PA5/SPI1_SCK/DAC_OUT2 ADC12_IN5 , 22 PA6/SPI1_MISO/TIM8_BKIN/ADC12_IN6/TIM3_CH1/TIM1_BKN, 23 PA7/SPI1_MOSI/TIM8_CH1N/ADC12_IN7/TIM3_CH2/TIM1_CH1N, 24 PC4/ ADC12_IN14 , 25  PC5/ ADC12_IN15 , 26 PB0/ADC12_IN8/TIM3_CH3/TIM8_CH2N/TIM1_CH2N, 27 PB1/ADC12_IN9/TIM3_CH4/TIM8_CH3N/TIM1_CH3N, 28 PB2/BOOT1, 29 PB10/I2C2_SCL/USART3_TX/TIM2_CH3, 30 PB11/I2C2_SDA/USART3_RX/TIM2_CH4, 31 VSS_1, 32 VDD_1, 33 PB12/SPI2_NSS/I2S2_WS/I2C2_SMBA/USART3_CK/TIM1_BKIN, 34 PB13/SPI2_SCK/I2S2_CK/USART3_CTS/TIM1_CH1N, 35 PB14/SPI2_MISO/TIM1_CH2N/USART3_RTS, 36 PB15/SPI2_MOSI/I2S2_SD/TIM1_CH3N, 37 PC6/I2S2_MCK/TIM8_CH1/SDIO_D6/TIM3_CH1, 38 PC7/I2S3_MCK/TIM8_CH2/SDIO_D7/TIM3_CH2, 39 PC8/ TIM8_CH3/SDIO_D0/ TIM3_CH3, 40 PC9/ TIM8_CH4/SDIO_D1/ TIM3_CH4, 41 PA8/USART1_CK/TIM1_CH1/MCO , 42 PA9/USART1_TX/TIM1_CH2, 43 PA10/USART1_RX/TIM1_CH3, 44 PA11/USART1_CTS/USBDM/CAN_RX/TIM1_CH4, 45 PA12/USART1_RTS/USBDP/CAN_TX/TIM1_ETR, 46 PA13/JTMSSWDIO, 47  VSS_2, 48 VDD_2, 49 PA14/JTCKSWCLK, 50 PA15/ JTDI/SPI3_NSS/I2S3_WS/TIM2_CH1_ETR/ SPI1_NSS, 51 PC10/ UART4_TX/SDIO_D2/ USART3_TX, 52 PC11/UART4_RX/SDIO_D3/USART3_RX, 53 PC12/UART5_TX/SDIO_CK/ USART3_CK, 54 PD2/TIM3_ETR/UART5_RX/SDIO_CMD, 55 PB3/JTDO/SPI3_SCK / I2S3_CK/PB3/TRACESWO/TIM2_CH2 /SPI1_SCK, 56 PB4/ NJTRST/SPI3_MISO/ TIM3_CH1/SPI1_MISO, 57 PB5/I2C1_SMBA/ SPI3_MOSI/I2S3_SD/TIM3_CH2 /SPI1_MOSI, 58 PB6/I2C1_SCL/ TIM4_CH1/USART1_TX, 59  PB7/I2C1_SDA /FSMC_NADV /TIM4_CH2/USART1_RX, 60 BOOT0, 61 PB8/TIM4_CH3/SDIO_D4/I2C1_SCL/CAN_RX, 62 PB9/TIM4_CH4/SDIO_D5/I2C1_SDA /CAN_TX, 63 VSS_3, 64 VDD_3
text: STM32F103RCT6

## STM32F103RDT6 LQFP64 _MH
designator U?
footprint LQFP64
pins: 1 VBAT, 2 PC13-TAMPERRTC, 3 PC14- OSC32_IN(5) I, 4 PC15- OSC32_OUT, 5 OSC_IN, 6 OSC_OUT, 7 NRST, 8 PC0, 9 PC1, 10 PC2, 11 PC3, 12 VSSA, 13 VDDA, 14 PA0-WKUP, 15 PA1, 16 PA2, 17 PA3, 18 VSS_4, 19 VDD_4, 20 PA4, 21 PA5, 22 PA6, 23 PA7, 24 PC4, 25 PC5, 26 PB0, 27 PB1, 28 PB2, 29 PB10, 30 PB11, 31 VSS_1, 32 VDD_1, 33 PB12, 34 PB13, 35 PB14, 36 PB15, 37 PC6, 38 PC7, 39 PC8, 40 PC9, 41 PA8, 42 PA9, 43 PA10, 44 PA11, 45 PA12, 46 PA13, 47 VSS_2, 48 VDD_2, 49 PA14, 50 PA15, 51 PC10, 52 PC11, 53 PC12, 54 PD2, 55 PB3, 56 PB4, 57 PB5, 58 PB6, 59 PB7, 60 BOOT0, 61 PB8, 62 PB9, 63 VSS_3, 64  VDD_3
text: STM32F103RDT6

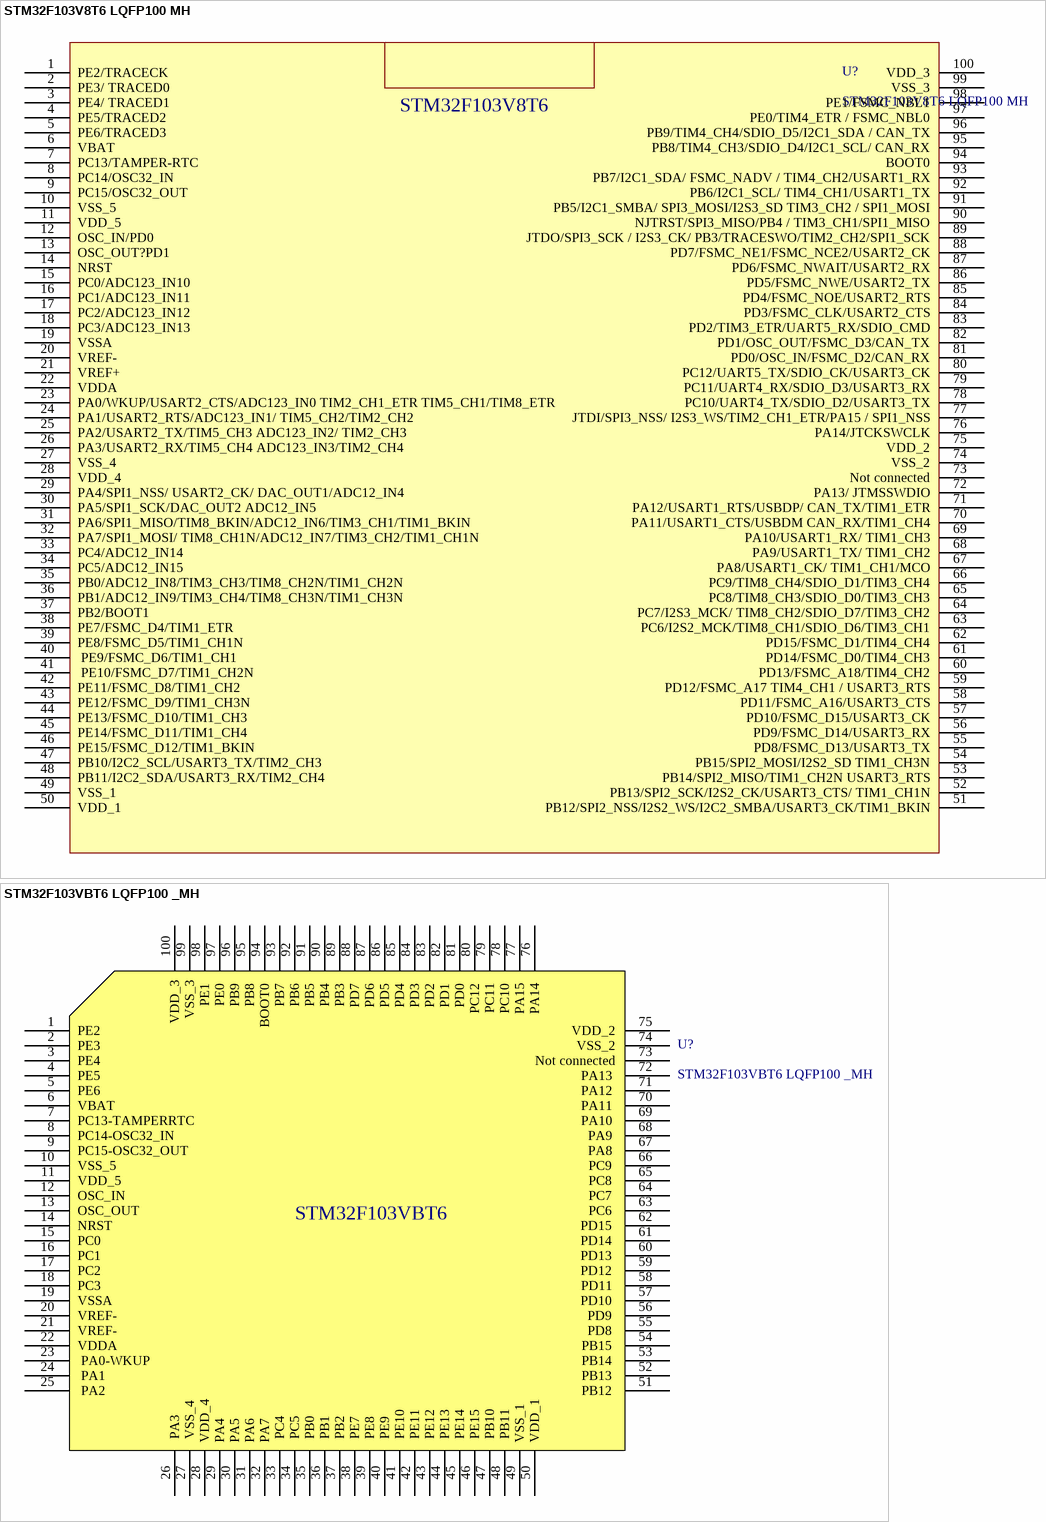
[diagram p29: symbols STM32F103V8T6 LQFP100 MH to STM32F103VBT6 LQFP100 _MH]

## STM32F103V8T6 LQFP100 MH
designator U?
footprint LQFP 100
pins: 1 PE2/TRACECK, 2 PE3/ TRACED0, 3 PE4/ TRACED1, 4 PE5/TRACED2, 5 PE6/TRACED3, 6 VBAT, 7 PC13/TAMPER-RTC, 8 PC14/OSC32_IN, 9 PC15/OSC32_OUT, 10 VSS_5, 11 VDD_5, 12 OSC_IN/PD0, 13 OSC_OUT?PD1, 14 NRST, 15 PC0/ADC123_IN10, 16 PC1/ADC123_IN11, 17 PC2/ADC123_IN12, 18 PC3/ADC123_IN13, 19 VSSA, 20 VREF-, 21 VREF+, 22 VDDA, 23 PA0/WKUP/USART2_CTS/ADC123_IN0 TIM2_CH1_ETR TIM5_CH1/TIM8_ETR, 24 PA1/USART2_RTS/ADC123_IN1/ TIM5_CH2/TIM2_CH2, 25 PA2/USART2_TX/TIM5_CH3 ADC123_IN2/ TIM2_CH3, 26 PA3/USART2_RX/TIM5_CH4 ADC123_IN3/TIM2_CH4, 27 VSS_4, 28 VDD_4, 29 PA4/SPI1_NSS/ USART2_CK/ DAC_OUT1/ADC12_IN4, 30 PA5/SPI1_SCK/DAC_OUT2 ADC12_IN5, 31 PA6/SPI1_MISO/TIM8_BKIN/ADC12_IN6/TIM3_CH1/TIM1_BKIN, 32 PA7/SPI1_MOSI/ TIM8_CH1N/ADC12_IN7/TIM3_CH2/TIM1_CH1N, 33 PC4/ADC12_IN14, 34 PC5/ADC12_IN15, 35 PB0/ADC12_IN8/TIM3_CH3/TIM8_CH2N/TIM1_CH2N, 36 PB1/ADC12_IN9/TIM3_CH4/TIM8_CH3N/TIM1_CH3N, 37 PB2/BOOT1, 38 PE7/FSMC_D4/TIM1_ETR, 39 PE8/FSMC_D5/TIM1_CH1N, 40  PE9/FSMC_D6/TIM1_CH1, 41  PE10/FSMC_D7/TIM1_CH2N, 42 PE11/FSMC_D8/TIM1_CH2, 43 PE12/FSMC_D9/TIM1_CH3N, 44 PE13/FSMC_D10/TIM1_CH3, 45 PE14/FSMC_D11/TIM1_CH4, 46 PE15/FSMC_D12/TIM1_BKIN, 47 PB10/I2C2_SCL/USART3_TX/TIM2_CH3, 48 PB11/I2C2_SDA/USART3_RX/TIM2_CH4, 49 VSS_1, 50 VDD_1, 51 PB12/SPI2_NSS/I2S2_WS/I2C2_SMBA/USART3_CK/TIM1_BKIN, 52 PB13/SPI2_SCK/I2S2_CK/USART3_CTS/ TIM1_CH1N, 53 PB14/SPI2_MISO/TIM1_CH2N USART3_RTS, 54 PB15/SPI2_MOSI/I2S2_SD TIM1_CH3N, 55 PD8/FSMC_D13/USART3_TX, 56 PD9/FSMC_D14/USART3_RX, 57 PD10/FSMC_D15/USART3_CK, 58 PD11/FSMC_A16/USART3_CTS, 59 PD12/FSMC_A17 TIM4_CH1 / USART3_RTS, 60 PD13/FSMC_A18/TIM4_CH2, 61 PD14/FSMC_D0/TIM4_CH3, 62 PD15/FSMC_D1/TIM4_CH4, 63 PC6/I2S2_MCK/TIM8_CH1/SDIO_D6/TIM3_CH1, 64 PC7/I2S3_MCK/ TIM8_CH2/SDIO_D7/TIM3_CH2, 65 PC8/TIM8_CH3/SDIO_D0/TIM3_CH3, 66 PC9/TIM8_CH4/SDIO_D1/TIM3_CH4, 67 PA8/USART1_CK/ TIM1_CH1/MCO, 68 PA9/USART1_TX/ TIM1_CH2, 69 PA10/USART1_RX/ TIM1_CH3, 70 PA11/USART1_CTS/USBDM CAN_RX/TIM1_CH4, 71 PA12/USART1_RTS/USBDP/ CAN_TX/TIM1_ETR, 72 PA13/ JTMSSWDIO, 73 Not connected, 74 VSS_2, 75 VDD_2, 76 PA14/JTCKSWCLK, 77 JTDI/SPI3_NSS/ I2S3_WS/TIM2_CH1_ETR/PA15 / SPI1_NSS, 78 PC10/UART4_TX/SDIO_D2/USART3_TX, 79 PC11/UART4_RX/SDIO_D3/USART3_RX, 80 PC12/UART5_TX/SDIO_CK/USART3_CK, 81 PD0/OSC_IN/FSMC_D2/CAN_RX, 82 PD1/OSC_OUT/FSMC_D3/CAN_TX, 83 PD2/TIM3_ETR/UART5_RX/SDIO_CMD, 84 PD3/FSMC_CLK/USART2_CTS, 85 PD4/FSMC_NOE/USART2_RTS, 86 PD5/FSMC_NWE/USART2_TX, 87 PD6/FSMC_NWAIT/USART2_RX, 88 PD7/FSMC_NE1/FSMC_NCE2/USART2_CK, 89 JTDO/SPI3_SCK / I2S3_CK/ PB3/TRACESWO/TIM2_CH2/SPI1_SCK, 90 NJTRST/SPI3_MISO/PB4 / TIM3_CH1/SPI1_MISO, 91 PB5/I2C1_SMBA/ SPI3_MOSI/I2S3_SD TIM3_CH2 / SPI1_MOSI, 92 PB6/I2C1_SCL/ TIM4_CH1/USART1_TX, 93 PB7/I2C1_SDA/ FSMC_NADV / TIM4_CH2/USART1_RX, 94 BOOT0, 95 PB8/TIM4_CH3/SDIO_D4/I2C1_SCL/ CAN_RX, 96 PB9/TIM4_CH4/SDIO_D5/I2C1_SDA / CAN_TX, 97 PE0/TIM4_ETR / FSMC_NBL0, 98 PE1/FSMC_NBL1, 99 VSS_3, 100 VDD_3
text: STM32F103V8T6

## STM32F103VBT6 LQFP100 _MH
designator U?
footprint LQFP 100
pins: 1 PE2, 2 PE3, 3 PE4, 4 PE5, 5 PE6, 6 VBAT, 7 PC13-TAMPERRTC, 8 PC14-OSC32_IN, 9 PC15-OSC32_OUT, 10 VSS_5, 11 VDD_5, 12 OSC_IN, 13 OSC_OUT, 14 NRST, 15 PC0, 16 PC1, 17 PC2, 18 PC3, 19 VSSA, 20 VREF-, 21 VREF-, 22 VDDA, 23  PA0-WKUP , 24  PA1 , 25  PA2 , 26  PA3 , 27  VSS_4, 28 VDD_4, 29 PA4, 30 PA5, 31 PA6, 32 PA7, 33  PC4 , 34  PC5 , 35  PB0 , 36  PB1 , 37  PB2 , 38  PE7 , 39  PE8 , 40  PE9 , 41  PE10 , 42  PE11 , 43  PE12 , 44  PE13 , 45  PE14 , 46  PE15 , 47  PB10 , 48  PB11 , 49 VSS_1, 50 VDD_1, 51  PB12 , 52  PB13 , 53  PB14 , 54  PB15 , 55  PD8 , 56  PD9 , 57  PD10 , 58  PD11 , 59  PD12 , 60  PD13 , 61  PD14 , 62  PD15 , 63  PC6 , 64  PC7 , 65  PC8 , 66  PC9 , 67  PA8 , 68  PA9 , 69  PA10 , 70  PA11 , 71  PA12 , 72  PA13 , 73 Not connected, 74 VSS_2, 75 VDD_2, 76  PA14 , 77  PA15 , 78  PC10 , 79  PC11 , 80  PC12 , 81  PD0 , 82  PD1 , 83  PD2 , 84  PD3 , 85  PD4 , 86  PD5 , 87  PD6 , 88  PD7 , 89  PB3 , 90  PB4 , 91  PB5 , 92  PB6 , 93  PB7 , 94  BOOT0 , 95  PB8 , 96  PB9 , 97  PE0 , 98  PE1 , 99 VSS_3, 100 VDD_3
text: STM32F103VBT6

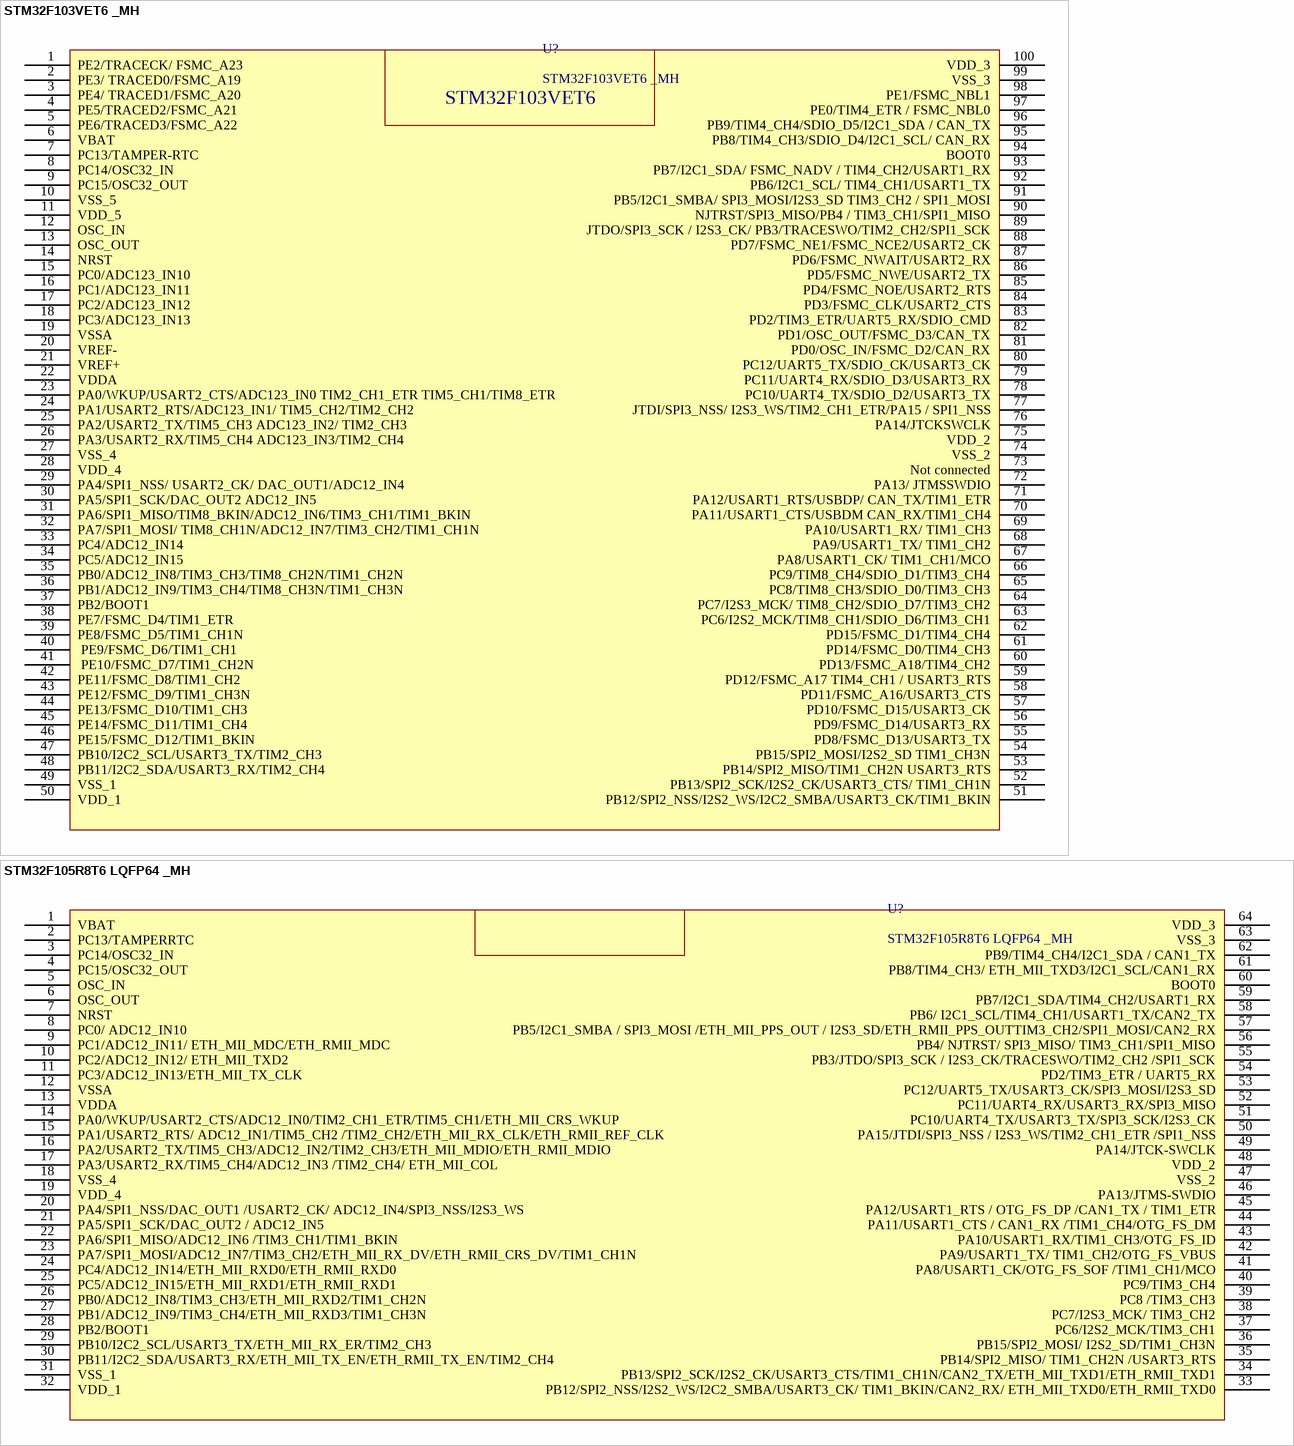
[diagram p30: symbols STM32F103VET6 _MH to STM32F105R8T6 LQFP64 _MH]

## STM32F103VET6 _MH
designator U?
footprint LQFP 100
pins: 1 PE2/TRACECK/ FSMC_A23, 2 PE3/ TRACED0/FSMC_A19, 3 PE4/ TRACED1/FSMC_A20, 4 PE5/TRACED2/FSMC_A21, 5 PE6/TRACED3/FSMC_A22, 6 VBAT, 7 PC13/TAMPER-RTC, 8 PC14/OSC32_IN, 9 PC15/OSC32_OUT, 10 VSS_5, 11 VDD_5, 12 OSC_IN, 13 OSC_OUT, 14 NRST, 15 PC0/ADC123_IN10, 16 PC1/ADC123_IN11, 17 PC2/ADC123_IN12, 18 PC3/ADC123_IN13, 19 VSSA, 20 VREF-, 21 VREF+, 22 VDDA, 23 PA0/WKUP/USART2_CTS/ADC123_IN0 TIM2_CH1_ETR TIM5_CH1/TIM8_ETR, 24 PA1/USART2_RTS/ADC123_IN1/ TIM5_CH2/TIM2_CH2, 25 PA2/USART2_TX/TIM5_CH3 ADC123_IN2/ TIM2_CH3, 26 PA3/USART2_RX/TIM5_CH4 ADC123_IN3/TIM2_CH4, 27 VSS_4, 28 VDD_4, 29 PA4/SPI1_NSS/ USART2_CK/ DAC_OUT1/ADC12_IN4, 30 PA5/SPI1_SCK/DAC_OUT2 ADC12_IN5, 31 PA6/SPI1_MISO/TIM8_BKIN/ADC12_IN6/TIM3_CH1/TIM1_BKIN, 32 PA7/SPI1_MOSI/ TIM8_CH1N/ADC12_IN7/TIM3_CH2/TIM1_CH1N, 33 PC4/ADC12_IN14, 34 PC5/ADC12_IN15, 35 PB0/ADC12_IN8/TIM3_CH3/TIM8_CH2N/TIM1_CH2N, 36 PB1/ADC12_IN9/TIM3_CH4/TIM8_CH3N/TIM1_CH3N, 37 PB2/BOOT1, 38 PE7/FSMC_D4/TIM1_ETR, 39 PE8/FSMC_D5/TIM1_CH1N, 40  PE9/FSMC_D6/TIM1_CH1, 41  PE10/FSMC_D7/TIM1_CH2N, 42 PE11/FSMC_D8/TIM1_CH2, 43 PE12/FSMC_D9/TIM1_CH3N, 44 PE13/FSMC_D10/TIM1_CH3, 45 PE14/FSMC_D11/TIM1_CH4, 46 PE15/FSMC_D12/TIM1_BKIN, 47 PB10/I2C2_SCL/USART3_TX/TIM2_CH3, 48 PB11/I2C2_SDA/USART3_RX/TIM2_CH4, 49 VSS_1, 50 VDD_1, 51 PB12/SPI2_NSS/I2S2_WS/I2C2_SMBA/USART3_CK/TIM1_BKIN, 52 PB13/SPI2_SCK/I2S2_CK/USART3_CTS/ TIM1_CH1N, 53 PB14/SPI2_MISO/TIM1_CH2N USART3_RTS, 54 PB15/SPI2_MOSI/I2S2_SD TIM1_CH3N, 55 PD8/FSMC_D13/USART3_TX, 56 PD9/FSMC_D14/USART3_RX, 57 PD10/FSMC_D15/USART3_CK, 58 PD11/FSMC_A16/USART3_CTS, 59 PD12/FSMC_A17 TIM4_CH1 / USART3_RTS, 60 PD13/FSMC_A18/TIM4_CH2, 61 PD14/FSMC_D0/TIM4_CH3, 62 PD15/FSMC_D1/TIM4_CH4, 63 PC6/I2S2_MCK/TIM8_CH1/SDIO_D6/TIM3_CH1, 64 PC7/I2S3_MCK/ TIM8_CH2/SDIO_D7/TIM3_CH2, 65 PC8/TIM8_CH3/SDIO_D0/TIM3_CH3, 66 PC9/TIM8_CH4/SDIO_D1/TIM3_CH4, 67 PA8/USART1_CK/ TIM1_CH1/MCO, 68 PA9/USART1_TX/ TIM1_CH2, 69 PA10/USART1_RX/ TIM1_CH3, 70 PA11/USART1_CTS/USBDM CAN_RX/TIM1_CH4, 71 PA12/USART1_RTS/USBDP/ CAN_TX/TIM1_ETR, 72 PA13/ JTMSSWDIO, 73 Not connected, 74 VSS_2, 75 VDD_2, 76 PA14/JTCKSWCLK, 77 JTDI/SPI3_NSS/ I2S3_WS/TIM2_CH1_ETR/PA15 / SPI1_NSS, 78 PC10/UART4_TX/SDIO_D2/USART3_TX, 79 PC11/UART4_RX/SDIO_D3/USART3_RX, 80 PC12/UART5_TX/SDIO_CK/USART3_CK, 81 PD0/OSC_IN/FSMC_D2/CAN_RX, 82 PD1/OSC_OUT/FSMC_D3/CAN_TX, 83 PD2/TIM3_ETR/UART5_RX/SDIO_CMD, 84 PD3/FSMC_CLK/USART2_CTS, 85 PD4/FSMC_NOE/USART2_RTS, 86 PD5/FSMC_NWE/USART2_TX, 87 PD6/FSMC_NWAIT/USART2_RX, 88 PD7/FSMC_NE1/FSMC_NCE2/USART2_CK, 89 JTDO/SPI3_SCK / I2S3_CK/ PB3/TRACESWO/TIM2_CH2/SPI1_SCK, 90 NJTRST/SPI3_MISO/PB4 / TIM3_CH1/SPI1_MISO, 91 PB5/I2C1_SMBA/ SPI3_MOSI/I2S3_SD TIM3_CH2 / SPI1_MOSI, 92 PB6/I2C1_SCL/ TIM4_CH1/USART1_TX, 93 PB7/I2C1_SDA/ FSMC_NADV / TIM4_CH2/USART1_RX, 94 BOOT0, 95 PB8/TIM4_CH3/SDIO_D4/I2C1_SCL/ CAN_RX, 96 PB9/TIM4_CH4/SDIO_D5/I2C1_SDA / CAN_TX, 97 PE0/TIM4_ETR / FSMC_NBL0, 98 PE1/FSMC_NBL1, 99 VSS_3, 100 VDD_3
text: STM32F103VET6

## STM32F105R8T6 LQFP64 _MH
designator U?
footprint LQFP64
pins: 1 VBAT, 2 PC13/TAMPERRTC, 3 PC14/OSC32_IN, 4 PC15/OSC32_OUT, 5 OSC_IN, 6 OSC_OUT, 7 NRST, 8 PC0/ ADC12_IN10, 9 PC1/ADC12_IN11/ ETH_MII_MDC/ETH_RMII_MDC, 10 PC2/ADC12_IN12/ ETH_MII_TXD2, 11 PC3/ADC12_IN13/ETH_MII_TX_CLK, 12 VSSA, 13 VDDA, 14 PA0/WKUP/USART2_CTS/ADC12_IN0/TIM2_CH1_ETR/TIM5_CH1/ETH_MII_CRS_WKUP, 15 PA1/USART2_RTS/ ADC12_IN1/TIM5_CH2 /TIM2_CH2/ETH_MII_RX_CLK/ETH_RMII_REF_CLK, 16 PA2/USART2_TX/TIM5_CH3/ADC12_IN2/TIM2_CH3/ETH_MII_MDIO/ETH_RMII_MDIO, 17 PA3/USART2_RX/TIM5_CH4/ADC12_IN3 /TIM2_CH4/ ETH_MII_COL, 18 VSS_4, 19 VDD_4, 20 PA4/SPI1_NSS/DAC_OUT1 /USART2_CK/ ADC12_IN4/SPI3_NSS/I2S3_WS, 21 PA5/SPI1_SCK/DAC_OUT2 / ADC12_IN5, 22 PA6/SPI1_MISO/ADC12_IN6 /TIM3_CH1/TIM1_BKIN, 23 PA7/SPI1_MOSI/ADC12_IN7/TIM3_CH2/ETH_MII_RX_DV/ETH_RMII_CRS_DV/TIM1_CH1N, 24 PC4/ADC12_IN14/ETH_MII_RXD0/ETH_RMII_RXD0, 25 PC5/ADC12_IN15/ETH_MII_RXD1/ETH_RMII_RXD1, 26 PB0/ADC12_IN8/TIM3_CH3/ETH_MII_RXD2/TIM1_CH2N, 27 PB1/ADC12_IN9/TIM3_CH4/ETH_MII_RXD3/TIM1_CH3N, 28 PB2/BOOT1, 29 PB10/I2C2_SCL/USART3_TX/ETH_MII_RX_ER/TIM2_CH3, 30 PB11/I2C2_SDA/USART3_RX/ETH_MII_TX_EN/ETH_RMII_TX_EN/TIM2_CH4, 31 VSS_1, 32 VDD_1, 33 PB12/SPI2_NSS/I2S2_WS/I2C2_SMBA/USART3_CK/ TIM1_BKIN/CAN2_RX/ ETH_MII_TXD0/ETH_RMII_TXD0, 34 PB13/SPI2_SCK/I2S2_CK/USART3_CTS/TIM1_CH1N/CAN2_TX/ETH_MII_TXD1/ETH_RMII_TXD1, 35 PB14/SPI2_MISO/ TIM1_CH2N /USART3_RTS, 36 PB15/SPI2_MOSI/ I2S2_SD/TIM1_CH3N, 37 PC6/I2S2_MCK/TIM3_CH1, 38 PC7/I2S3_MCK/ TIM3_CH2, 39 PC8 /TIM3_CH3, 40 PC9/TIM3_CH4, 41 PA8/USART1_CK/OTG_FS_SOF /TIM1_CH1/MCO, 42 PA9/USART1_TX/ TIM1_CH2/OTG_FS_VBUS, 43 PA10/USART1_RX/TIM1_CH3/OTG_FS_ID, 44 PA11/USART1_CTS / CAN1_RX /TIM1_CH4/OTG_FS_DM, 45 PA12/USART1_RTS / OTG_FS_DP /CAN1_TX / TIM1_ETR, 46 PA13/JTMS-SWDIO, 47 VSS_2, 48 VDD_2, 49 PA14/JTCK-SWCLK, 50 PA15/JTDI/SPI3_NSS / I2S3_WS/TIM2_CH1_ETR /SPI1_NSS, 51 PC10/UART4_TX/USART3_TX/SPI3_SCK/I2S3_CK, 52 PC11/UART4_RX/USART3_RX/SPI3_MISO, 53 PC12/UART5_TX/USART3_CK/SPI3_MOSI/I2S3_SD, 54 PD2/TIM3_ETR / UART5_RX, 55 PB3/JTDO/SPI3_SCK / I2S3_CK/TRACESWO/TIM2_CH2 /SPI1_SCK, 56 PB4/ NJTRST/ SPI3_MISO/ TIM3_CH1/SPI1_MISO, 57 PB5/I2C1_SMBA / SPI3_MOSI /ETH_MII_PPS_OUT / I2S3_SD/ETH_RMII_PPS_OUTTIM3_CH2/SPI1_MOSI/CAN2_RX, 58 PB6/ I2C1_SCL/TIM4_CH1/USART1_TX/CAN2_TX, 59 PB7/I2C1_SDA/TIM4_CH2/USART1_RX, 60 BOOT0, 61 PB8/TIM4_CH3/ ETH_MII_TXD3/I2C1_SCL/CAN1_RX, 62 PB9/TIM4_CH4/I2C1_SDA / CAN1_TX, 63 VSS_3, 64 VDD_3

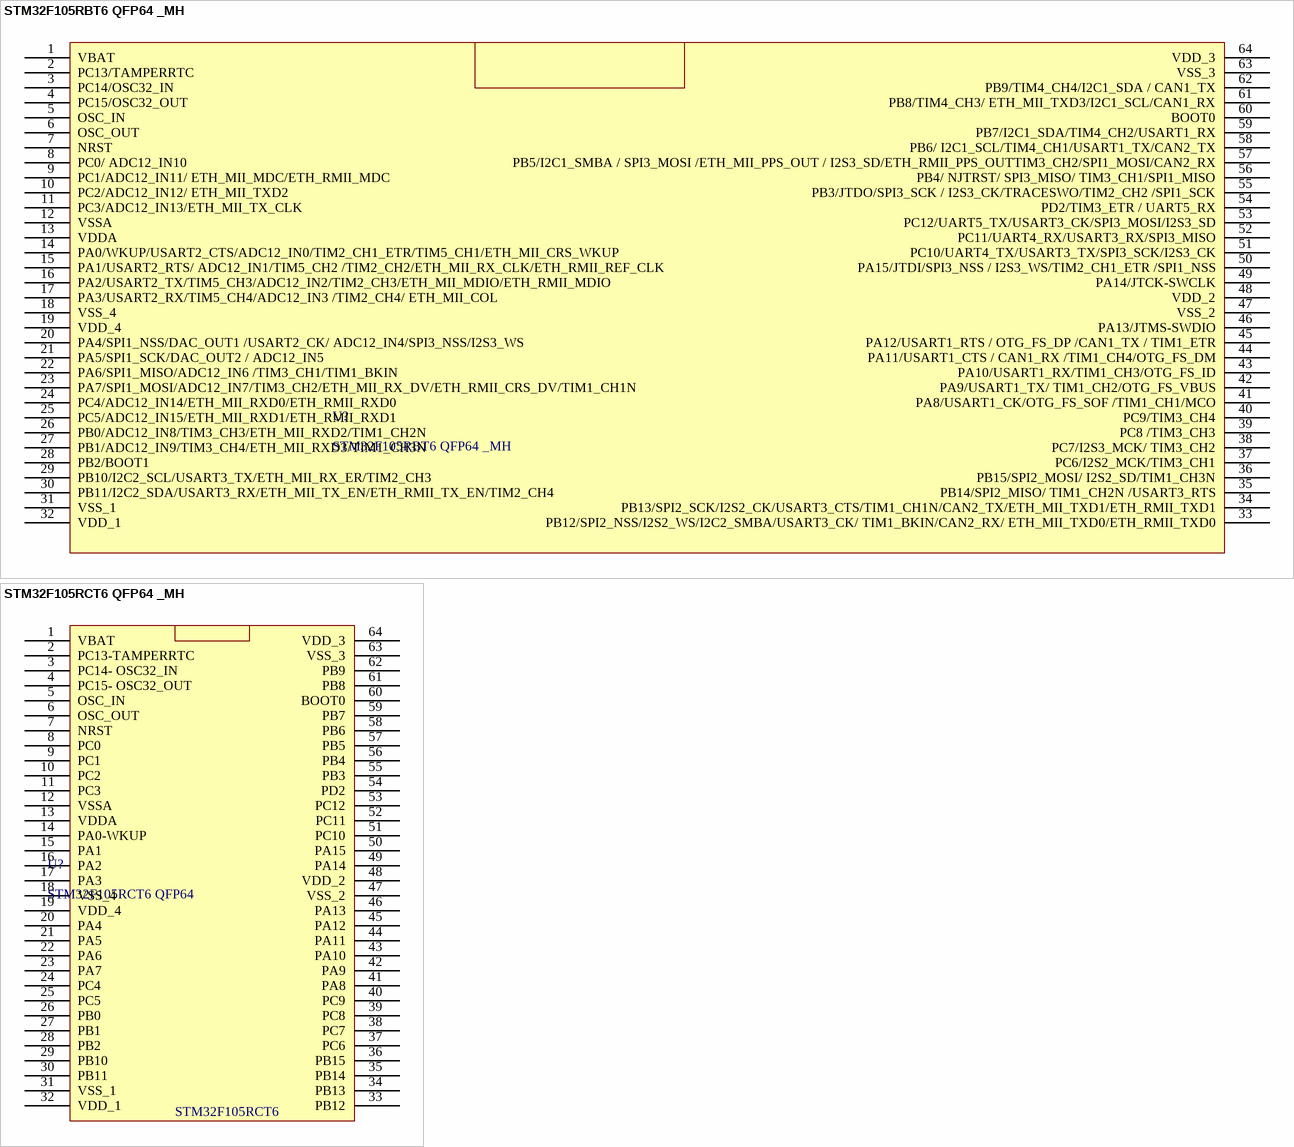
[diagram p31: symbols STM32F105RBT6 QFP64 _MH to STM32F105RCT6 QFP64 _MH]

## STM32F105RBT6 QFP64 _MH
designator U?
footprint LQFP64
pins: 1 VBAT, 2 PC13/TAMPERRTC, 3 PC14/OSC32_IN, 4 PC15/OSC32_OUT, 5 OSC_IN, 6 OSC_OUT, 7 NRST, 8 PC0/ ADC12_IN10, 9 PC1/ADC12_IN11/ ETH_MII_MDC/ETH_RMII_MDC, 10 PC2/ADC12_IN12/ ETH_MII_TXD2, 11 PC3/ADC12_IN13/ETH_MII_TX_CLK, 12 VSSA, 13 VDDA, 14 PA0/WKUP/USART2_CTS/ADC12_IN0/TIM2_CH1_ETR/TIM5_CH1/ETH_MII_CRS_WKUP, 15 PA1/USART2_RTS/ ADC12_IN1/TIM5_CH2 /TIM2_CH2/ETH_MII_RX_CLK/ETH_RMII_REF_CLK, 16 PA2/USART2_TX/TIM5_CH3/ADC12_IN2/TIM2_CH3/ETH_MII_MDIO/ETH_RMII_MDIO, 17 PA3/USART2_RX/TIM5_CH4/ADC12_IN3 /TIM2_CH4/ ETH_MII_COL, 18 VSS_4, 19 VDD_4, 20 PA4/SPI1_NSS/DAC_OUT1 /USART2_CK/ ADC12_IN4/SPI3_NSS/I2S3_WS, 21 PA5/SPI1_SCK/DAC_OUT2 / ADC12_IN5, 22 PA6/SPI1_MISO/ADC12_IN6 /TIM3_CH1/TIM1_BKIN, 23 PA7/SPI1_MOSI/ADC12_IN7/TIM3_CH2/ETH_MII_RX_DV/ETH_RMII_CRS_DV/TIM1_CH1N, 24 PC4/ADC12_IN14/ETH_MII_RXD0/ETH_RMII_RXD0, 25 PC5/ADC12_IN15/ETH_MII_RXD1/ETH_RMII_RXD1, 26 PB0/ADC12_IN8/TIM3_CH3/ETH_MII_RXD2/TIM1_CH2N, 27 PB1/ADC12_IN9/TIM3_CH4/ETH_MII_RXD3/TIM1_CH3N, 28 PB2/BOOT1, 29 PB10/I2C2_SCL/USART3_TX/ETH_MII_RX_ER/TIM2_CH3, 30 PB11/I2C2_SDA/USART3_RX/ETH_MII_TX_EN/ETH_RMII_TX_EN/TIM2_CH4, 31 VSS_1, 32 VDD_1, 33 PB12/SPI2_NSS/I2S2_WS/I2C2_SMBA/USART3_CK/ TIM1_BKIN/CAN2_RX/ ETH_MII_TXD0/ETH_RMII_TXD0, 34 PB13/SPI2_SCK/I2S2_CK/USART3_CTS/TIM1_CH1N/CAN2_TX/ETH_MII_TXD1/ETH_RMII_TXD1, 35 PB14/SPI2_MISO/ TIM1_CH2N /USART3_RTS, 36 PB15/SPI2_MOSI/ I2S2_SD/TIM1_CH3N, 37 PC6/I2S2_MCK/TIM3_CH1, 38 PC7/I2S3_MCK/ TIM3_CH2, 39 PC8 /TIM3_CH3, 40 PC9/TIM3_CH4, 41 PA8/USART1_CK/OTG_FS_SOF /TIM1_CH1/MCO, 42 PA9/USART1_TX/ TIM1_CH2/OTG_FS_VBUS, 43 PA10/USART1_RX/TIM1_CH3/OTG_FS_ID, 44 PA11/USART1_CTS / CAN1_RX /TIM1_CH4/OTG_FS_DM, 45 PA12/USART1_RTS / OTG_FS_DP /CAN1_TX / TIM1_ETR, 46 PA13/JTMS-SWDIO, 47 VSS_2, 48 VDD_2, 49 PA14/JTCK-SWCLK, 50 PA15/JTDI/SPI3_NSS / I2S3_WS/TIM2_CH1_ETR /SPI1_NSS, 51 PC10/UART4_TX/USART3_TX/SPI3_SCK/I2S3_CK, 52 PC11/UART4_RX/USART3_RX/SPI3_MISO, 53 PC12/UART5_TX/USART3_CK/SPI3_MOSI/I2S3_SD, 54 PD2/TIM3_ETR / UART5_RX, 55 PB3/JTDO/SPI3_SCK / I2S3_CK/TRACESWO/TIM2_CH2 /SPI1_SCK, 56 PB4/ NJTRST/ SPI3_MISO/ TIM3_CH1/SPI1_MISO, 57 PB5/I2C1_SMBA / SPI3_MOSI /ETH_MII_PPS_OUT / I2S3_SD/ETH_RMII_PPS_OUTTIM3_CH2/SPI1_MOSI/CAN2_RX, 58 PB6/ I2C1_SCL/TIM4_CH1/USART1_TX/CAN2_TX, 59 PB7/I2C1_SDA/TIM4_CH2/USART1_RX, 60 BOOT0, 61 PB8/TIM4_CH3/ ETH_MII_TXD3/I2C1_SCL/CAN1_RX, 62 PB9/TIM4_CH4/I2C1_SDA / CAN1_TX, 63 VSS_3, 64 VDD_3

## STM32F105RCT6 QFP64 _MH
designator U?, comment STM32F105RCT6 QFP64
STM32F105RCT6 QFP64 _MH
footprint LQFP64
pins: 1 VBAT, 2 PC13-TAMPERRTC, 3 PC14- OSC32_IN, 4 PC15- OSC32_OUT, 5 OSC_IN, 6 OSC_OUT, 7 NRST, 8 PC0, 9 PC1, 10 PC2, 11 PC3, 12 VSSA, 13 VDDA, 14 PA0-WKUP, 15 PA1, 16 PA2, 17 PA3, 18 VSS_4, 19 VDD_4, 20 PA4, 21 PA5, 22 PA6, 23 PA7, 24 PC4, 25 PC5, 26 PB0, 27 PB1, 28 PB2, 29 PB10, 30 PB11, 31 VSS_1, 32 VDD_1, 33 PB12, 34 PB13, 35 PB14, 36 PB15, 37 PC6, 38 PC7, 39 PC8, 40 PC9, 41 PA8, 42 PA9, 43 PA10, 44 PA11, 45 PA12, 46 PA13, 47 VSS_2, 48 VDD_2, 49 PA14, 50 PA15, 51 PC10, 52 PC11, 53 PC12, 54 PD2, 55 PB3, 56 PB4, 57 PB5, 58 PB6, 59 PB7, 60 BOOT0, 61 PB8, 62 PB9, 63 VSS_3, 64 VDD_3
text: STM32F105RCT6

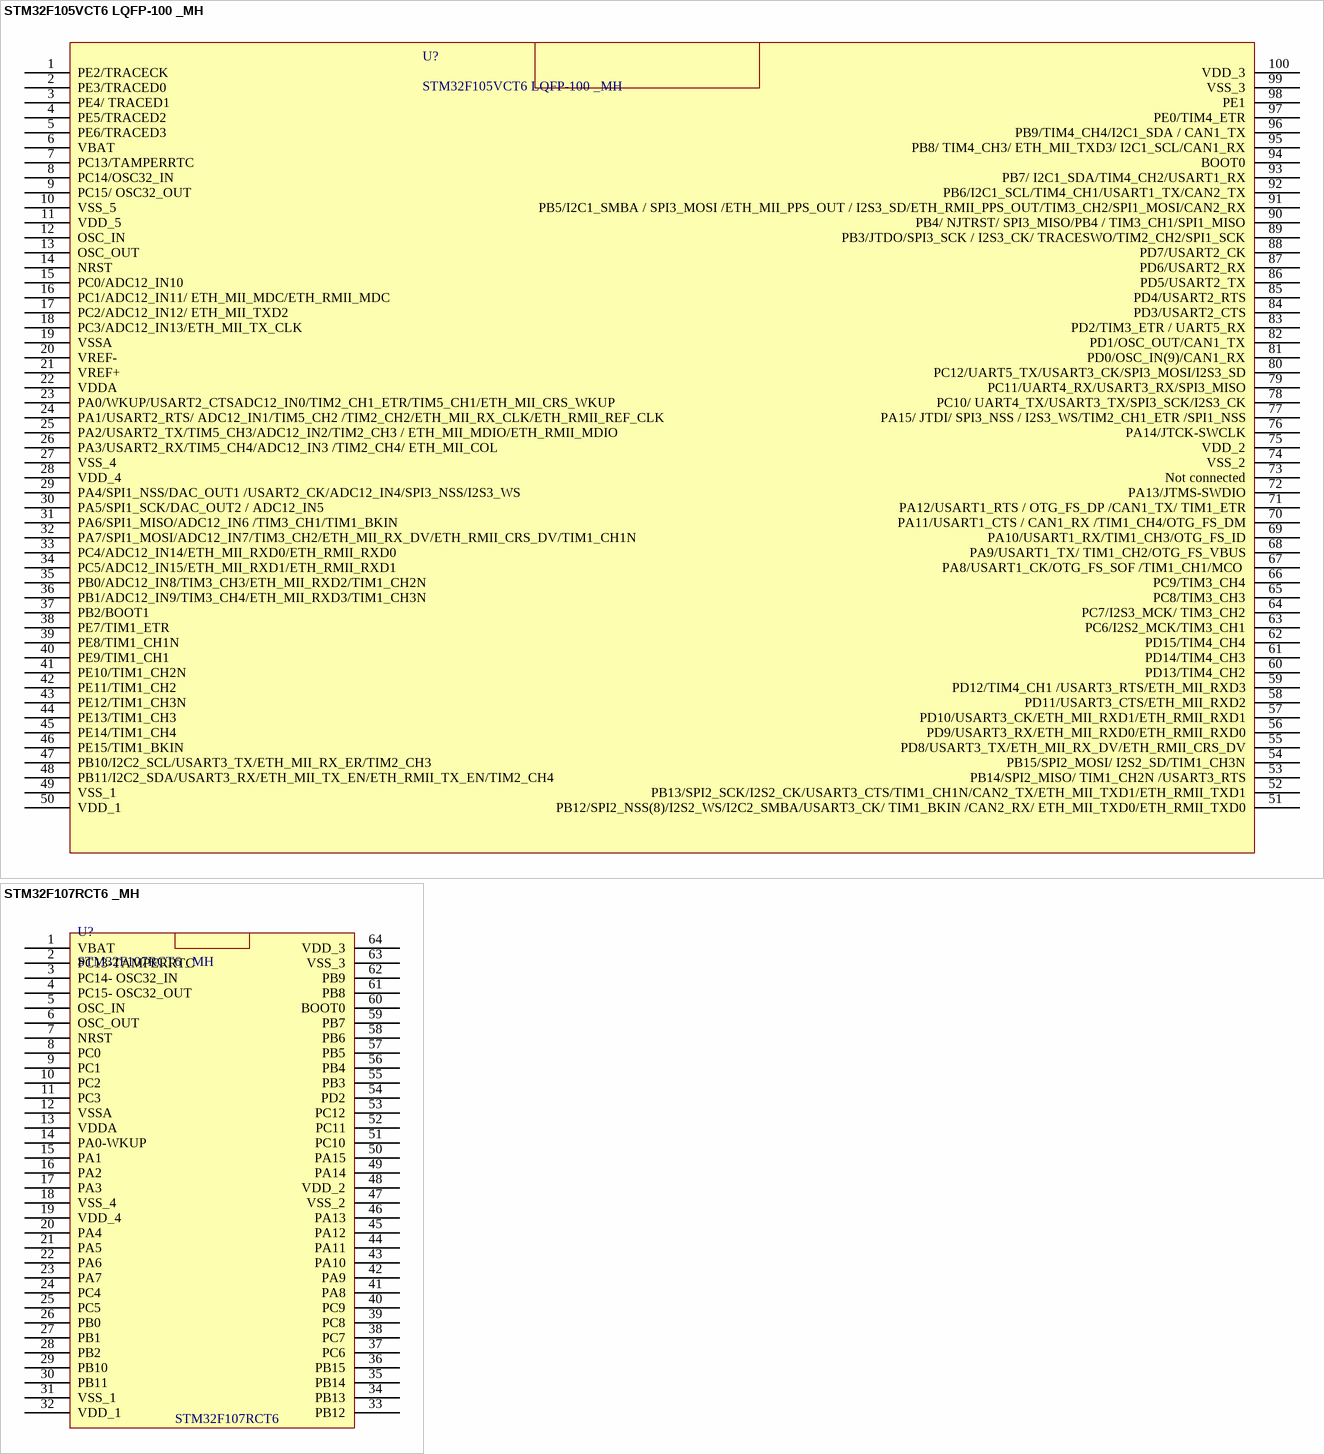
[diagram p32: symbols STM32F105VCT6 LQFP-100 _MH to STM32F107RCT6 _MH]

## STM32F105VCT6 LQFP-100 _MH
designator U?
footprint LQFP 100
pins: 1 PE2/TRACECK, 2 PE3/TRACED0, 3 PE4/ TRACED1, 4 PE5/TRACED2, 5 PE6/TRACED3, 6 VBAT, 7 PC13/TAMPERRTC, 8 PC14/OSC32_IN, 9 PC15/ OSC32_OUT, 10 VSS_5, 11 VDD_5, 12 OSC_IN, 13 OSC_OUT, 14 NRST, 15 PC0/ADC12_IN10, 16 PC1/ADC12_IN11/ ETH_MII_MDC/ETH_RMII_MDC, 17 PC2/ADC12_IN12/ ETH_MII_TXD2, 18 PC3/ADC12_IN13/ETH_MII_TX_CLK, 19 VSSA, 20 VREF- , 21 VREF+, 22 VDDA, 23 PA0/WKUP/USART2_CTSADC12_IN0/TIM2_CH1_ETR/TIM5_CH1/ETH_MII_CRS_WKUP, 24 PA1/USART2_RTS/ ADC12_IN1/TIM5_CH2 /TIM2_CH2/ETH_MII_RX_CLK/ETH_RMII_REF_CLK, 25 PA2/USART2_TX/TIM5_CH3/ADC12_IN2/TIM2_CH3 / ETH_MII_MDIO/ETH_RMII_MDIO, 26 PA3/USART2_RX/TIM5_CH4/ADC12_IN3 /TIM2_CH4/ ETH_MII_COL, 27 VSS_4, 28 VDD_4, 29 PA4/SPI1_NSS/DAC_OUT1 /USART2_CK/ADC12_IN4/SPI3_NSS/I2S3_WS, 30 PA5/SPI1_SCK/DAC_OUT2 / ADC12_IN5, 31 PA6/SPI1_MISO/ADC12_IN6 /TIM3_CH1/TIM1_BKIN, 32 PA7/SPI1_MOSI/ADC12_IN7/TIM3_CH2/ETH_MII_RX_DV/ETH_RMII_CRS_DV/TIM1_CH1N, 33 PC4/ADC12_IN14/ETH_MII_RXD0/ETH_RMII_RXD0, 34 PC5/ADC12_IN15/ETH_MII_RXD1/ETH_RMII_RXD1, 35 PB0/ADC12_IN8/TIM3_CH3/ETH_MII_RXD2/TIM1_CH2N, 36 PB1/ADC12_IN9/TIM3_CH4/ETH_MII_RXD3/TIM1_CH3N, 37 PB2/BOOT1, 38 PE7/TIM1_ETR, 39 PE8/TIM1_CH1N, 40 PE9/TIM1_CH1, 41 PE10/TIM1_CH2N, 42 PE11/TIM1_CH2, 43 PE12/TIM1_CH3N, 44 PE13/TIM1_CH3, 45 PE14/TIM1_CH4, 46 PE15/TIM1_BKIN, 47 PB10/I2C2_SCL/USART3_TX/ETH_MII_RX_ER/TIM2_CH3, 48 PB11/I2C2_SDA/USART3_RX/ETH_MII_TX_EN/ETH_RMII_TX_EN/TIM2_CH4, 49 VSS_1, 50 VDD_1, 51 PB12/SPI2_NSS(8)/I2S2_WS/I2C2_SMBA/USART3_CK/ TIM1_BKIN /CAN2_RX/ ETH_MII_TXD0/ETH_RMII_TXD0, 52 PB13/SPI2_SCK/I2S2_CK/USART3_CTS/TIM1_CH1N/CAN2_TX/ETH_MII_TXD1/ETH_RMII_TXD1, 53 PB14/SPI2_MISO/ TIM1_CH2N /USART3_RTS, 54  PB15/SPI2_MOSI/ I2S2_SD/TIM1_CH3N, 55 PD8/USART3_TX/ETH_MII_RX_DV/ETH_RMII_CRS_DV, 56 PD9/USART3_RX/ETH_MII_RXD0/ETH_RMII_RXD0, 57 PD10/USART3_CK/ETH_MII_RXD1/ETH_RMII_RXD1, 58 PD11/USART3_CTS/ETH_MII_RXD2, 59 PD12/TIM4_CH1 /USART3_RTS/ETH_MII_RXD3, 60 PD13/TIM4_CH2, 61 PD14/TIM4_CH3, 62 PD15/TIM4_CH4, 63 PC6/I2S2_MCK/TIM3_CH1, 64 PC7/I2S3_MCK/ TIM3_CH2, 65 PC8/TIM3_CH3, 66 PC9/TIM3_CH4, 67 PA8/USART1_CK/OTG_FS_SOF /TIM1_CH1/MCO , 68 PA9/USART1_TX/ TIM1_CH2/OTG_FS_VBUS, 69 PA10/USART1_RX/TIM1_CH3/OTG_FS_ID, 70 PA11/USART1_CTS / CAN1_RX /TIM1_CH4/OTG_FS_DM, 71 PA12/USART1_RTS / OTG_FS_DP /CAN1_TX/ TIM1_ETR, 72 PA13/JTMS-SWDIO, 73 Not connected, 74 VSS_2, 75 VDD_2, 76 PA14/JTCK-SWCLK, 77 PA15/ JTDI/ SPI3_NSS / I2S3_WS/TIM2_CH1_ETR /SPI1_NSS, 78 PC10/ UART4_TX/USART3_TX/SPI3_SCK/I2S3_CK, 79 PC11/UART4_RX/USART3_RX/SPI3_MISO, 80 PC12/UART5_TX/USART3_CK/SPI3_MOSI/I2S3_SD, 81 PD0/OSC_IN(9)/CAN1_RX, 82 PD1/OSC_OUT/CAN1_TX, 83 PD2/TIM3_ETR / UART5_RX, 84 PD3/USART2_CTS, 85 PD4/USART2_RTS, 86 PD5/USART2_TX, 87 PD6/USART2_RX, 88 PD7/USART2_CK, 89 PB3/JTDO/SPI3_SCK / I2S3_CK/ TRACESWO/TIM2_CH2/SPI1_SCK, 90 PB4/ NJTRST/ SPI3_MISO/PB4 / TIM3_CH1/SPI1_MISO, 91 PB5/I2C1_SMBA / SPI3_MOSI /ETH_MII_PPS_OUT / I2S3_SD/ETH_RMII_PPS_OUT/TIM3_CH2/SPI1_MOSI/CAN2_RX, 92 PB6/I2C1_SCL/TIM4_CH1/USART1_TX/CAN2_TX, 93  PB7/ I2C1_SDA/TIM4_CH2/USART1_RX, 94 BOOT0, 95 PB8/ TIM4_CH3/ ETH_MII_TXD3/ I2C1_SCL/CAN1_RX, 96 PB9/TIM4_CH4/I2C1_SDA / CAN1_TX, 97 PE0/TIM4_ETR, 98 PE1, 99 VSS_3, 100 VDD_3

## STM32F107RCT6 _MH
designator U?
footprint LQFP64
pins: 1 VBAT, 2 PC13-TAMPERRTC, 3 PC14- OSC32_IN, 4 PC15- OSC32_OUT, 5 OSC_IN, 6 OSC_OUT, 7 NRST, 8 PC0, 9 PC1, 10 PC2, 11 PC3, 12 VSSA, 13 VDDA, 14 PA0-WKUP, 15 PA1, 16 PA2, 17 PA3, 18 VSS_4, 19 VDD_4, 20 PA4, 21 PA5, 22 PA6, 23 PA7, 24 PC4, 25 PC5, 26 PB0, 27 PB1, 28 PB2, 29 PB10, 30 PB11, 31 VSS_1, 32 VDD_1, 33 PB12, 34 PB13, 35 PB14, 36 PB15, 37 PC6, 38 PC7, 39 PC8, 40 PC9, 41 PA8, 42 PA9, 43 PA10, 44 PA11, 45 PA12, 46 PA13, 47 VSS_2, 48 VDD_2, 49 PA14, 50 PA15, 51 PC10, 52 PC11, 53 PC12, 54 PD2, 55 PB3, 56 PB4, 57 PB5, 58 PB6, 59 PB7, 60 BOOT0, 61 PB8, 62 PB9, 63 VSS_3, 64 VDD_3
text: STM32F107RCT6

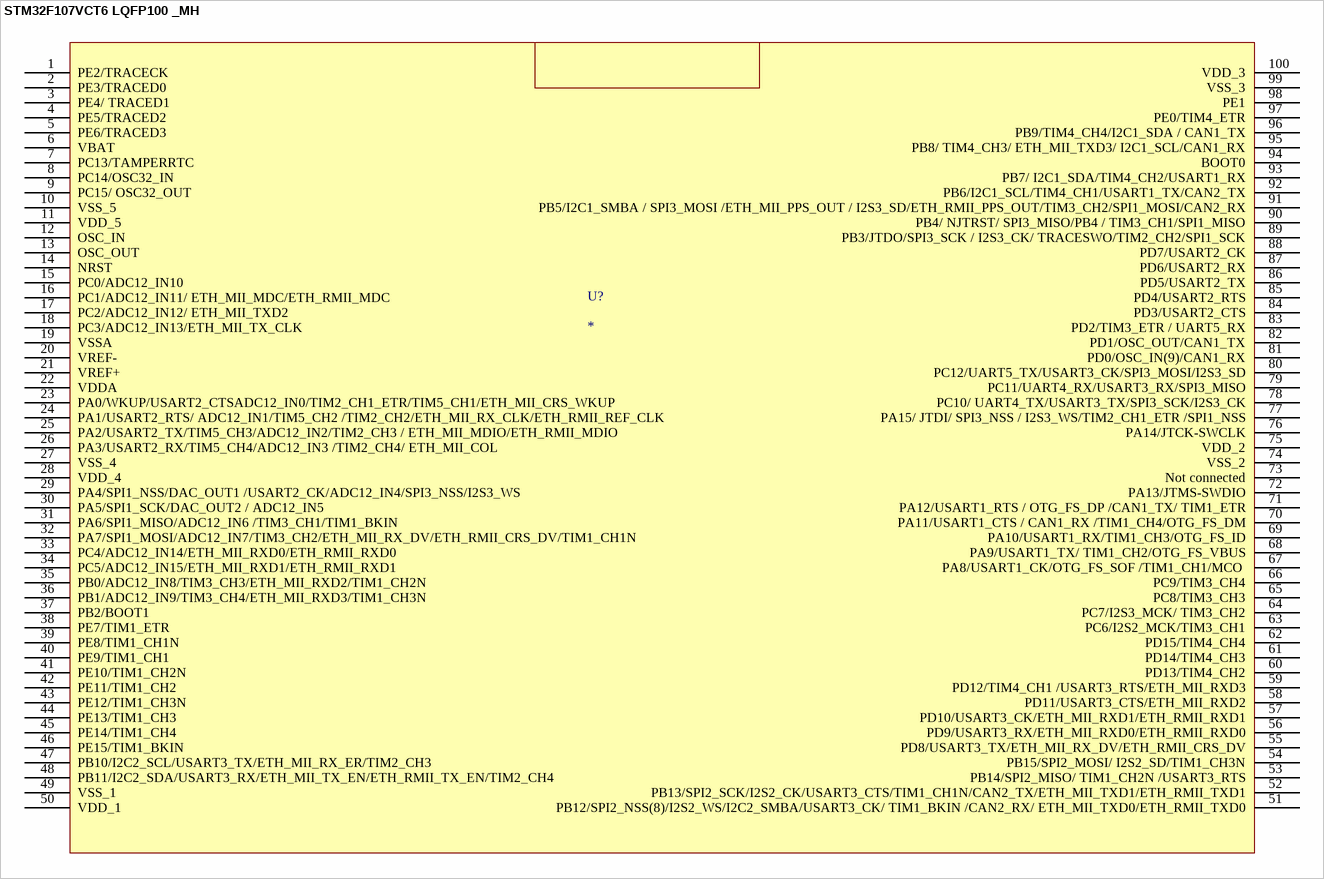
[diagram p33: symbol STM32F107VCT6 LQFP100 _MH]

## STM32F107VCT6 LQFP100 _MH
designator U?
STM32F107VCT6 LQFP100 _MH
footprint LQFP 100
pins: 1 PE2/TRACECK, 2 PE3/TRACED0, 3 PE4/ TRACED1, 4 PE5/TRACED2, 5 PE6/TRACED3, 6 VBAT, 7 PC13/TAMPERRTC, 8 PC14/OSC32_IN, 9 PC15/ OSC32_OUT, 10 VSS_5, 11 VDD_5, 12 OSC_IN, 13 OSC_OUT, 14 NRST, 15 PC0/ADC12_IN10, 16 PC1/ADC12_IN11/ ETH_MII_MDC/ETH_RMII_MDC, 17 PC2/ADC12_IN12/ ETH_MII_TXD2, 18 PC3/ADC12_IN13/ETH_MII_TX_CLK, 19 VSSA, 20 VREF- , 21 VREF+, 22 VDDA, 23 PA0/WKUP/USART2_CTSADC12_IN0/TIM2_CH1_ETR/TIM5_CH1/ETH_MII_CRS_WKUP, 24 PA1/USART2_RTS/ ADC12_IN1/TIM5_CH2 /TIM2_CH2/ETH_MII_RX_CLK/ETH_RMII_REF_CLK, 25 PA2/USART2_TX/TIM5_CH3/ADC12_IN2/TIM2_CH3 / ETH_MII_MDIO/ETH_RMII_MDIO, 26 PA3/USART2_RX/TIM5_CH4/ADC12_IN3 /TIM2_CH4/ ETH_MII_COL, 27 VSS_4, 28 VDD_4, 29 PA4/SPI1_NSS/DAC_OUT1 /USART2_CK/ADC12_IN4/SPI3_NSS/I2S3_WS, 30 PA5/SPI1_SCK/DAC_OUT2 / ADC12_IN5, 31 PA6/SPI1_MISO/ADC12_IN6 /TIM3_CH1/TIM1_BKIN, 32 PA7/SPI1_MOSI/ADC12_IN7/TIM3_CH2/ETH_MII_RX_DV/ETH_RMII_CRS_DV/TIM1_CH1N, 33 PC4/ADC12_IN14/ETH_MII_RXD0/ETH_RMII_RXD0, 34 PC5/ADC12_IN15/ETH_MII_RXD1/ETH_RMII_RXD1, 35 PB0/ADC12_IN8/TIM3_CH3/ETH_MII_RXD2/TIM1_CH2N, 36 PB1/ADC12_IN9/TIM3_CH4/ETH_MII_RXD3/TIM1_CH3N, 37 PB2/BOOT1, 38 PE7/TIM1_ETR, 39 PE8/TIM1_CH1N, 40 PE9/TIM1_CH1, 41 PE10/TIM1_CH2N, 42 PE11/TIM1_CH2, 43 PE12/TIM1_CH3N, 44 PE13/TIM1_CH3, 45 PE14/TIM1_CH4, 46 PE15/TIM1_BKIN, 47 PB10/I2C2_SCL/USART3_TX/ETH_MII_RX_ER/TIM2_CH3, 48 PB11/I2C2_SDA/USART3_RX/ETH_MII_TX_EN/ETH_RMII_TX_EN/TIM2_CH4, 49 VSS_1, 50 VDD_1, 51 PB12/SPI2_NSS(8)/I2S2_WS/I2C2_SMBA/USART3_CK/ TIM1_BKIN /CAN2_RX/ ETH_MII_TXD0/ETH_RMII_TXD0, 52 PB13/SPI2_SCK/I2S2_CK/USART3_CTS/TIM1_CH1N/CAN2_TX/ETH_MII_TXD1/ETH_RMII_TXD1, 53 PB14/SPI2_MISO/ TIM1_CH2N /USART3_RTS, 54  PB15/SPI2_MOSI/ I2S2_SD/TIM1_CH3N, 55 PD8/USART3_TX/ETH_MII_RX_DV/ETH_RMII_CRS_DV, 56 PD9/USART3_RX/ETH_MII_RXD0/ETH_RMII_RXD0, 57 PD10/USART3_CK/ETH_MII_RXD1/ETH_RMII_RXD1, 58 PD11/USART3_CTS/ETH_MII_RXD2, 59 PD12/TIM4_CH1 /USART3_RTS/ETH_MII_RXD3, 60 PD13/TIM4_CH2, 61 PD14/TIM4_CH3, 62 PD15/TIM4_CH4, 63 PC6/I2S2_MCK/TIM3_CH1, 64 PC7/I2S3_MCK/ TIM3_CH2, 65 PC8/TIM3_CH3, 66 PC9/TIM3_CH4, 67 PA8/USART1_CK/OTG_FS_SOF /TIM1_CH1/MCO , 68 PA9/USART1_TX/ TIM1_CH2/OTG_FS_VBUS, 69 PA10/USART1_RX/TIM1_CH3/OTG_FS_ID, 70 PA11/USART1_CTS / CAN1_RX /TIM1_CH4/OTG_FS_DM, 71 PA12/USART1_RTS / OTG_FS_DP /CAN1_TX/ TIM1_ETR, 72 PA13/JTMS-SWDIO, 73 Not connected, 74 VSS_2, 75 VDD_2, 76 PA14/JTCK-SWCLK, 77 PA15/ JTDI/ SPI3_NSS / I2S3_WS/TIM2_CH1_ETR /SPI1_NSS, 78 PC10/ UART4_TX/USART3_TX/SPI3_SCK/I2S3_CK, 79 PC11/UART4_RX/USART3_RX/SPI3_MISO, 80 PC12/UART5_TX/USART3_CK/SPI3_MOSI/I2S3_SD, 81 PD0/OSC_IN(9)/CAN1_RX, 82 PD1/OSC_OUT/CAN1_TX, 83 PD2/TIM3_ETR / UART5_RX, 84 PD3/USART2_CTS, 85 PD4/USART2_RTS, 86 PD5/USART2_TX, 87 PD6/USART2_RX, 88 PD7/USART2_CK, 89 PB3/JTDO/SPI3_SCK / I2S3_CK/ TRACESWO/TIM2_CH2/SPI1_SCK, 90 PB4/ NJTRST/ SPI3_MISO/PB4 / TIM3_CH1/SPI1_MISO, 91 PB5/I2C1_SMBA / SPI3_MOSI /ETH_MII_PPS_OUT / I2S3_SD/ETH_RMII_PPS_OUT/TIM3_CH2/SPI1_MOSI/CAN2_RX, 92 PB6/I2C1_SCL/TIM4_CH1/USART1_TX/CAN2_TX, 93  PB7/ I2C1_SDA/TIM4_CH2/USART1_RX, 94 BOOT0, 95 PB8/ TIM4_CH3/ ETH_MII_TXD3/ I2C1_SCL/CAN1_RX, 96 PB9/TIM4_CH4/I2C1_SDA / CAN1_TX, 97 PE0/TIM4_ETR, 98 PE1, 99 VSS_3, 100 VDD_3

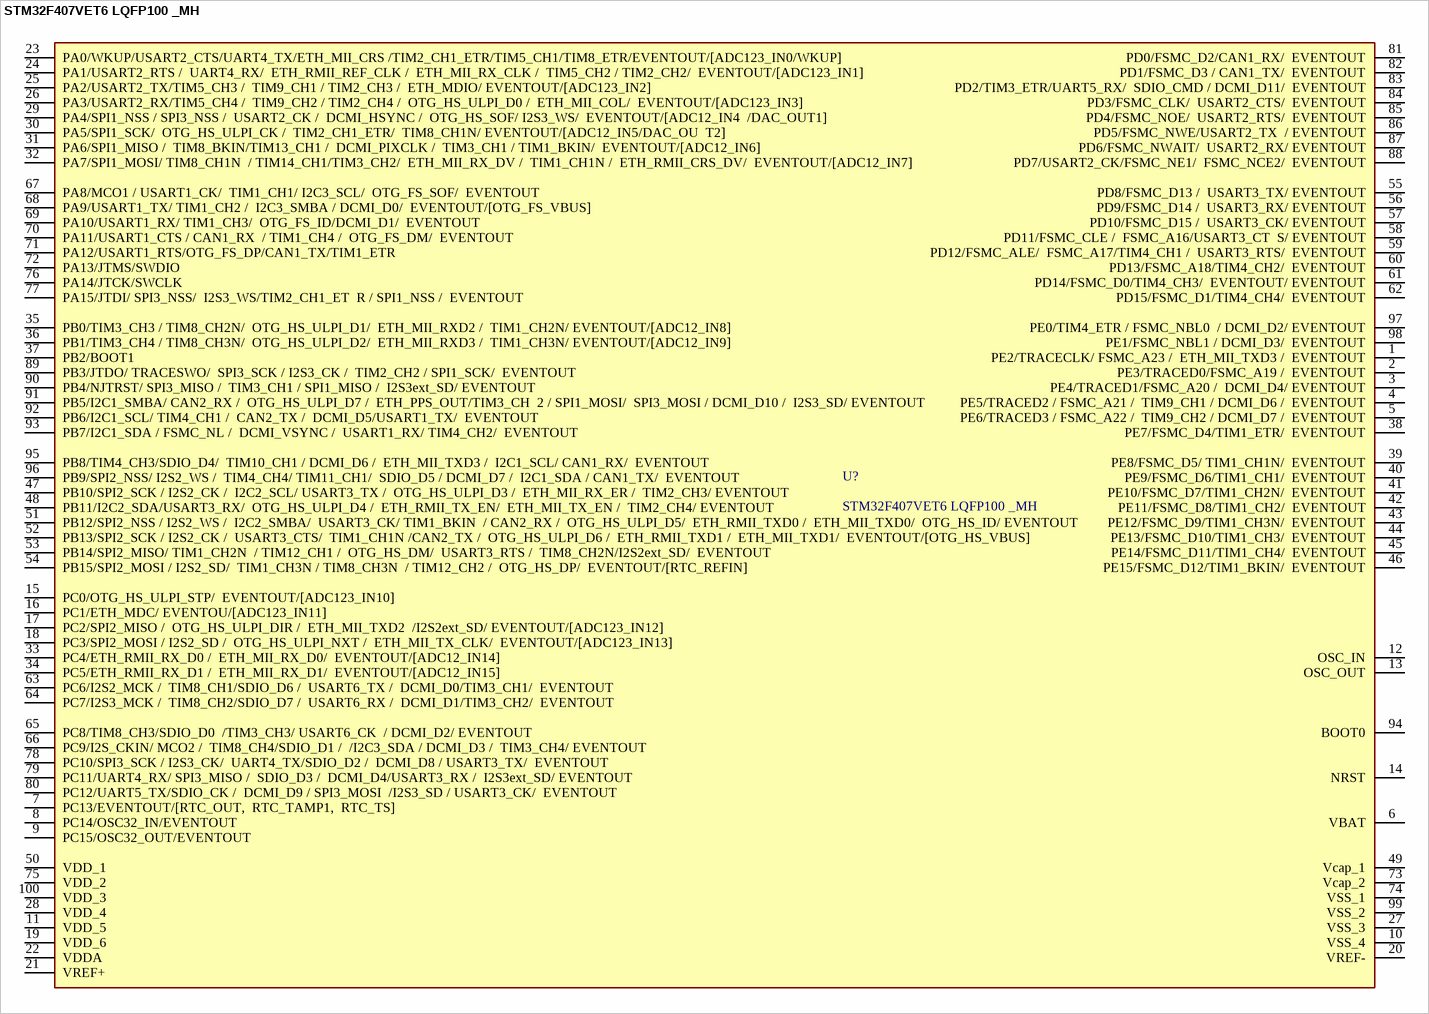
[diagram p34: symbol STM32F407VET6 LQFP100 _MH]

## STM32F407VET6 LQFP100 _MH
designator U?
footprint LQFP 100
pins: 1 PE2/TRACECLK/ FSMC_A23 /  ETH_MII_TXD3 /  EVENTOUT, 2 PE3/TRACED0/FSMC_A19 /  EVENTOUT, 3 PE4/TRACED1/FSMC_A20 /  DCMI_D4/ EVENTOUT, 4 PE5/TRACED2 / FSMC_A21 /  TIM9_CH1 / DCMI_D6 /  EVENTOUT, 5 PE6/TRACED3 / FSMC_A22 /  TIM9_CH2 / DCMI_D7 /  EVENTOUT, 6 VBAT, 7 PC13/EVENTOUT/[RTC_OUT,  RTC_TAMP1,  RTC_TS], 8 PC14/OSC32_IN/EVENTOUT, 9 PC15/OSC32_OUT/EVENTOUT, 10 VSS_4, 11 VDD_5, 12 OSC_IN, 13 OSC_OUT, 14 NRST, 15 PC0/OTG_HS_ULPI_STP/  EVENTOUT/[ADC123_IN10], 16 PC1/ETH_MDC/ EVENTOU/[ADC123_IN11], 17 PC2/SPI2_MISO /  OTG_HS_ULPI_DIR /  ETH_MII_TXD2  /I2S2ext_SD/ EVENTOUT/[ADC123_IN12], 18 PC3/SPI2_MOSI / I2S2_SD /  OTG_HS_ULPI_NXT /  ETH_MII_TX_CLK/  EVENTOUT/[ADC123_IN13], 19 VDD_6, 20 VREF-, 21 VREF+, 22 VDDA, 23 PA0/WKUP/USART2_CTS/UART4_TX/ETH_MII_CRS /TIM2_CH1_ETR/TIM5_CH1/TIM8_ETR/EVENTOUT/[ADC123_IN0/WKUP], 24 PA1/USART2_RTS /  UART4_RX/  ETH_RMII_REF_CLK /  ETH_MII_RX_CLK /  TIM5_CH2 / TIM2_CH2/  EVENTOUT/[ADC123_IN1], 25 PA2/USART2_TX/TIM5_CH3 /  TIM9_CH1 / TIM2_CH3 /  ETH_MDIO/ EVENTOUT/[ADC123_IN2], 26 PA3/USART2_RX/TIM5_CH4 /  TIM9_CH2 / TIM2_CH4 /  OTG_HS_ULPI_D0 /  ETH_MII_COL/  EVENTOUT/[ADC123_IN3], 27 VSS_3, 28 VDD_4, 29 PA4/SPI1_NSS / SPI3_NSS /  USART2_CK /  DCMI_HSYNC /  OTG_HS_SOF/ I2S3_WS/  EVENTOUT/[ADC12_IN4  /DAC_OUT1], 30 PA5/SPI1_SCK/  OTG_HS_ULPI_CK /  TIM2_CH1_ETR/  TIM8_CH1N/ EVENTOUT/[ADC12_IN5/DAC_OU  T2], 31 PA6/SPI1_MISO /  TIM8_BKIN/TIM13_CH1 /  DCMI_PIXCLK /  TIM3_CH1 / TIM1_BKIN/  EVENTOUT/[ADC12_IN6], 32 PA7/SPI1_MOSI/ TIM8_CH1N  / TIM14_CH1/TIM3_CH2/  ETH_MII_RX_DV /  TIM1_CH1N /  ETH_RMII_CRS_DV/  EVENTOUT/[ADC12_IN7], 33 PC4/ETH_RMII_RX_D0 /  ETH_MII_RX_D0/  EVENTOUT/[ADC12_IN14], 34 PC5/ETH_RMII_RX_D1 /  ETH_MII_RX_D1/  EVENTOUT/[ADC12_IN15], 35 PB0/TIM3_CH3 / TIM8_CH2N/  OTG_HS_ULPI_D1/  ETH_MII_RXD2 /  TIM1_CH2N/ EVENTOUT/[ADC12_IN8], 36 PB1/TIM3_CH4 / TIM8_CH3N/  OTG_HS_ULPI_D2/  ETH_MII_RXD3 /  TIM1_CH3N/ EVENTOUT/[ADC12_IN9], 37 PB2/BOOT1  , 38 PE7/FSMC_D4/TIM1_ETR/  EVENTOUT, 39 PE8/FSMC_D5/ TIM1_CH1N/  EVENTOUT, 40 PE9/FSMC_D6/TIM1_CH1/  EVENTOUT, 41 PE10/FSMC_D7/TIM1_CH2N/  EVENTOUT, 42 PE11/FSMC_D8/TIM1_CH2/  EVENTOUT, 43 PE12/FSMC_D9/TIM1_CH3N/  EVENTOUT, 44 PE13/FSMC_D10/TIM1_CH3/  EVENTOUT, 45 PE14/FSMC_D11/TIM1_CH4/  EVENTOUT, 46 PE15/FSMC_D12/TIM1_BKIN/  EVENTOUT, 47 PB10/SPI2_SCK / I2S2_CK /  I2C2_SCL/ USART3_TX /  OTG_HS_ULPI_D3 /  ETH_MII_RX_ER /  TIM2_CH3/ EVENTOUT, 48 PB11/I2C2_SDA/USART3_RX/  OTG_HS_ULPI_D4 /  ETH_RMII_TX_EN/  ETH_MII_TX_EN /  TIM2_CH4/ EVENTOUT, 49 Vcap_1, 50 VDD_1, 51 PB12/SPI2_NSS / I2S2_WS /  I2C2_SMBA/  USART3_CK/ TIM1_BKIN  / CAN2_RX /  OTG_HS_ULPI_D5/  ETH_RMII_TXD0 /  ETH_MII_TXD0/  OTG_HS_ID/ EVENTOUT, 52 PB13/SPI2_SCK / I2S2_CK /  USART3_CTS/  TIM1_CH1N /CAN2_TX /  OTG_HS_ULPI_D6 /  ETH_RMII_TXD1 /  ETH_MII_TXD1/  EVENTOUT/[OTG_HS_VBUS], 53 PB14/SPI2_MISO/ TIM1_CH2N  / TIM12_CH1 /  OTG_HS_DM/  USART3_RTS /  TIM8_CH2N/I2S2ext_SD/  EVENTOUT, 54 PB15/SPI2_MOSI / I2S2_SD/  TIM1_CH3N / TIM8_CH3N  / TIM12_CH2 /  OTG_HS_DP/  EVENTOUT/[RTC_REFIN], 55 PD8/FSMC_D13 /  USART3_TX/ EVENTOUT, 56 PD9/FSMC_D14 /  USART3_RX/ EVENTOUT, 57 PD10/FSMC_D15 /  USART3_CK/ EVENTOUT, 58 PD11/FSMC_CLE /  FSMC_A16/USART3_CT  S/ EVENTOUT, 59 PD12/FSMC_ALE/  FSMC_A17/TIM4_CH1 /  USART3_RTS/  EVENTOUT, 60 PD13/FSMC_A18/TIM4_CH2/  EVENTOUT, 61 PD14/FSMC_D0/TIM4_CH3/  EVENTOUT/ EVENTOUT, 62 PD15/FSMC_D1/TIM4_CH4/  EVENTOUT, 63 PC6/I2S2_MCK /  TIM8_CH1/SDIO_D6 /  USART6_TX /  DCMI_D0/TIM3_CH1/  EVENTOUT, 64 PC7/I2S3_MCK /  TIM8_CH2/SDIO_D7 /  USART6_RX /  DCMI_D1/TIM3_CH2/  EVENTOUT, 65 PC8/TIM8_CH3/SDIO_D0  /TIM3_CH3/ USART6_CK  / DCMI_D2/ EVENTOUT, 66 PC9/I2S_CKIN/ MCO2 /  TIM8_CH4/SDIO_D1 /  /I2C3_SDA / DCMI_D3 /  TIM3_CH4/ EVENTOUT, 67 PA8/MCO1 / USART1_CK/  TIM1_CH1/ I2C3_SCL/  OTG_FS_SOF/  EVENTOUT, 68 PA9/USART1_TX/ TIM1_CH2 /  I2C3_SMBA / DCMI_D0/  EVENTOUT/[OTG_FS_VBUS], 69 PA10/USART1_RX/ TIM1_CH3/  OTG_FS_ID/DCMI_D1/  EVENTOUT, 70 PA11/USART1_CTS / CAN1_RX  / TIM1_CH4 /  OTG_FS_DM/  EVENTOUT, 71 PA12/USART1_RTS/OTG_FS_DP/CAN1_TX/TIM1_ETR  , 72 PA13/JTMS/SWDIO  , 73 Vcap_2, 74 VSS_1, 75 VDD_2, 76 PA14/JTCK/SWCLK  , 77 PA15/JTDI/ SPI3_NSS/  I2S3_WS/TIM2_CH1_ET  R / SPI1_NSS /  EVENTOUT, 78 PC10/SPI3_SCK / I2S3_CK/  UART4_TX/SDIO_D2 /  DCMI_D8 / USART3_TX/  EVENTOUT, 79 PC11/UART4_RX/ SPI3_MISO /  SDIO_D3 /  DCMI_D4/USART3_RX /  I2S3ext_SD/ EVENTOUT, 80 PC12/UART5_TX/SDIO_CK /  DCMI_D9 / SPI3_MOSI  /I2S3_SD / USART3_CK/  EVENTOUT, 81 PD0/FSMC_D2/CAN1_RX/  EVENTOUT, 82 PD1/FSMC_D3 / CAN1_TX/  EVENTOUT, 83 PD2/TIM3_ETR/UART5_RX/  SDIO_CMD / DCMI_D11/  EVENTOUT, 84 PD3/FSMC_CLK/  USART2_CTS/  EVENTOUT, 85 PD4/FSMC_NOE/  USART2_RTS/  EVENTOUT, 86 PD5/FSMC_NWE/USART2_TX  / EVENTOUT, 87 PD6/FSMC_NWAIT/  USART2_RX/ EVENTOUT, 88 PD7/USART2_CK/FSMC_NE1/  FSMC_NCE2/  EVENTOUT, 89 PB3/JTDO/ TRACESWO/  SPI3_SCK / I2S3_CK /  TIM2_CH2 / SPI1_SCK/  EVENTOUT, 90 PB4/NJTRST/ SPI3_MISO /  TIM3_CH1 / SPI1_MISO /  I2S3ext_SD/ EVENTOUT, 91 PB5/I2C1_SMBA/ CAN2_RX /  OTG_HS_ULPI_D7 /  ETH_PPS_OUT/TIM3_CH  2 / SPI1_MOSI/  SPI3_MOSI / DCMI_D10 /  I2S3_SD/ EVENTOUT, 92 PB6/I2C1_SCL/ TIM4_CH1 /  CAN2_TX /  DCMI_D5/USART1_TX/  EVENTOUT, 93 PB7/I2C1_SDA / FSMC_NL /  DCMI_VSYNC /  USART1_RX/ TIM4_CH2/  EVENTOUT, 94 BOOT0, 95 PB8/TIM4_CH3/SDIO_D4/  TIM10_CH1 / DCMI_D6 /  ETH_MII_TXD3 /  I2C1_SCL/ CAN1_RX/  EVENTOUT, 96 PB9/SPI2_NSS/ I2S2_WS /  TIM4_CH4/ TIM11_CH1/  SDIO_D5 / DCMI_D7 /  I2C1_SDA / CAN1_TX/  EVENTOUT, 97 PE0/TIM4_ETR / FSMC_NBL0  / DCMI_D2/ EVENTOUT, 98 PE1/FSMC_NBL1 / DCMI_D3/  EVENTOUT, 99 VSS_2, 100 VDD_3

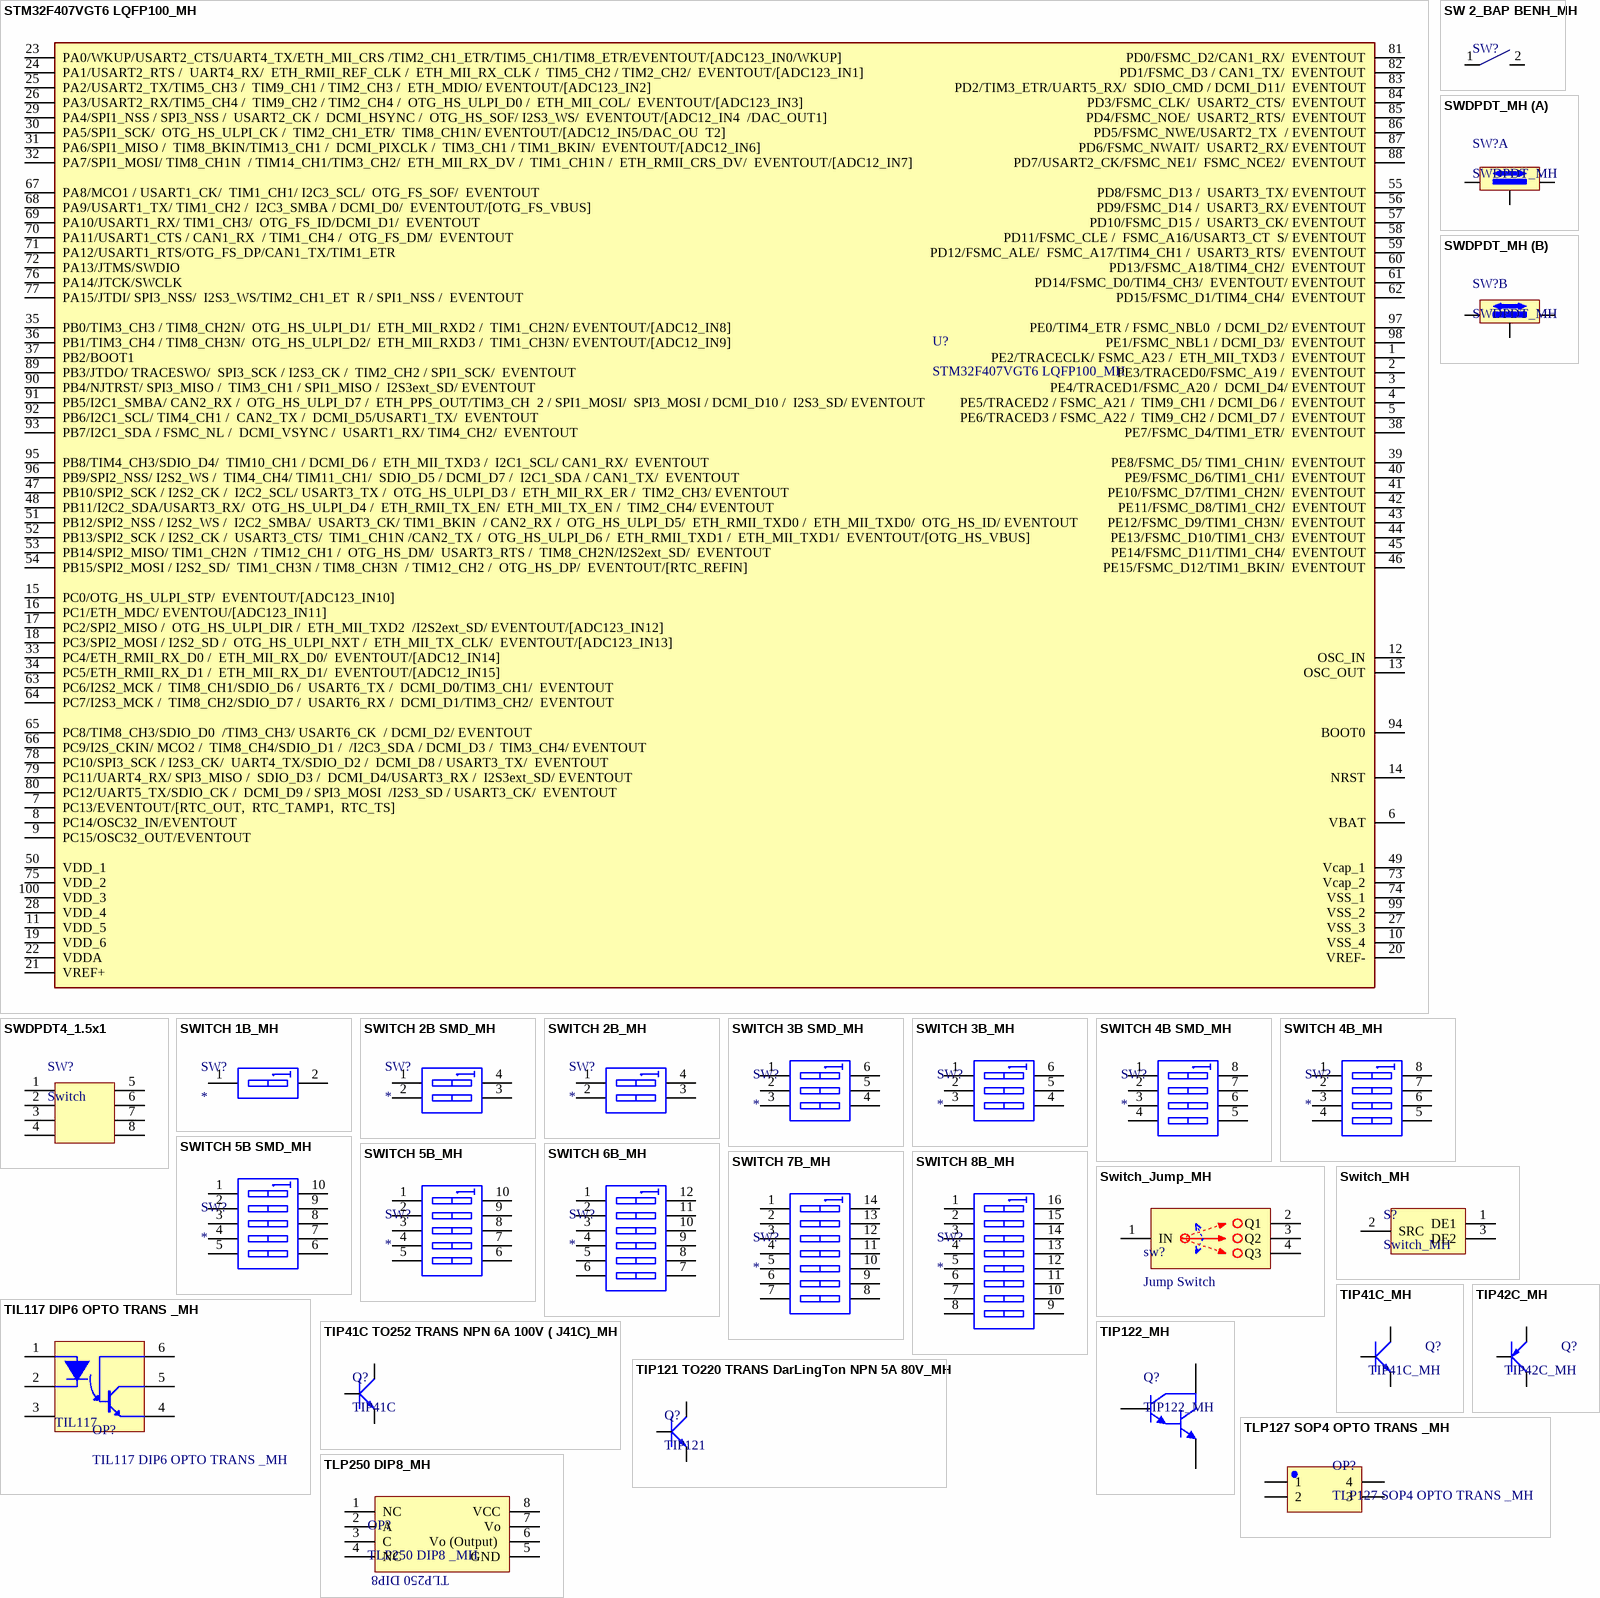
[diagram p35: symbols STM32F407VGT6 LQFP100_MH to TLP250 DIP8_MH]